# Altium integrated library 3D_MIG_Controller.Library.IntLib: 528 symbols (part 1 of 6)
Pins are listed as number, name and electrical type; pins without a type are passive.

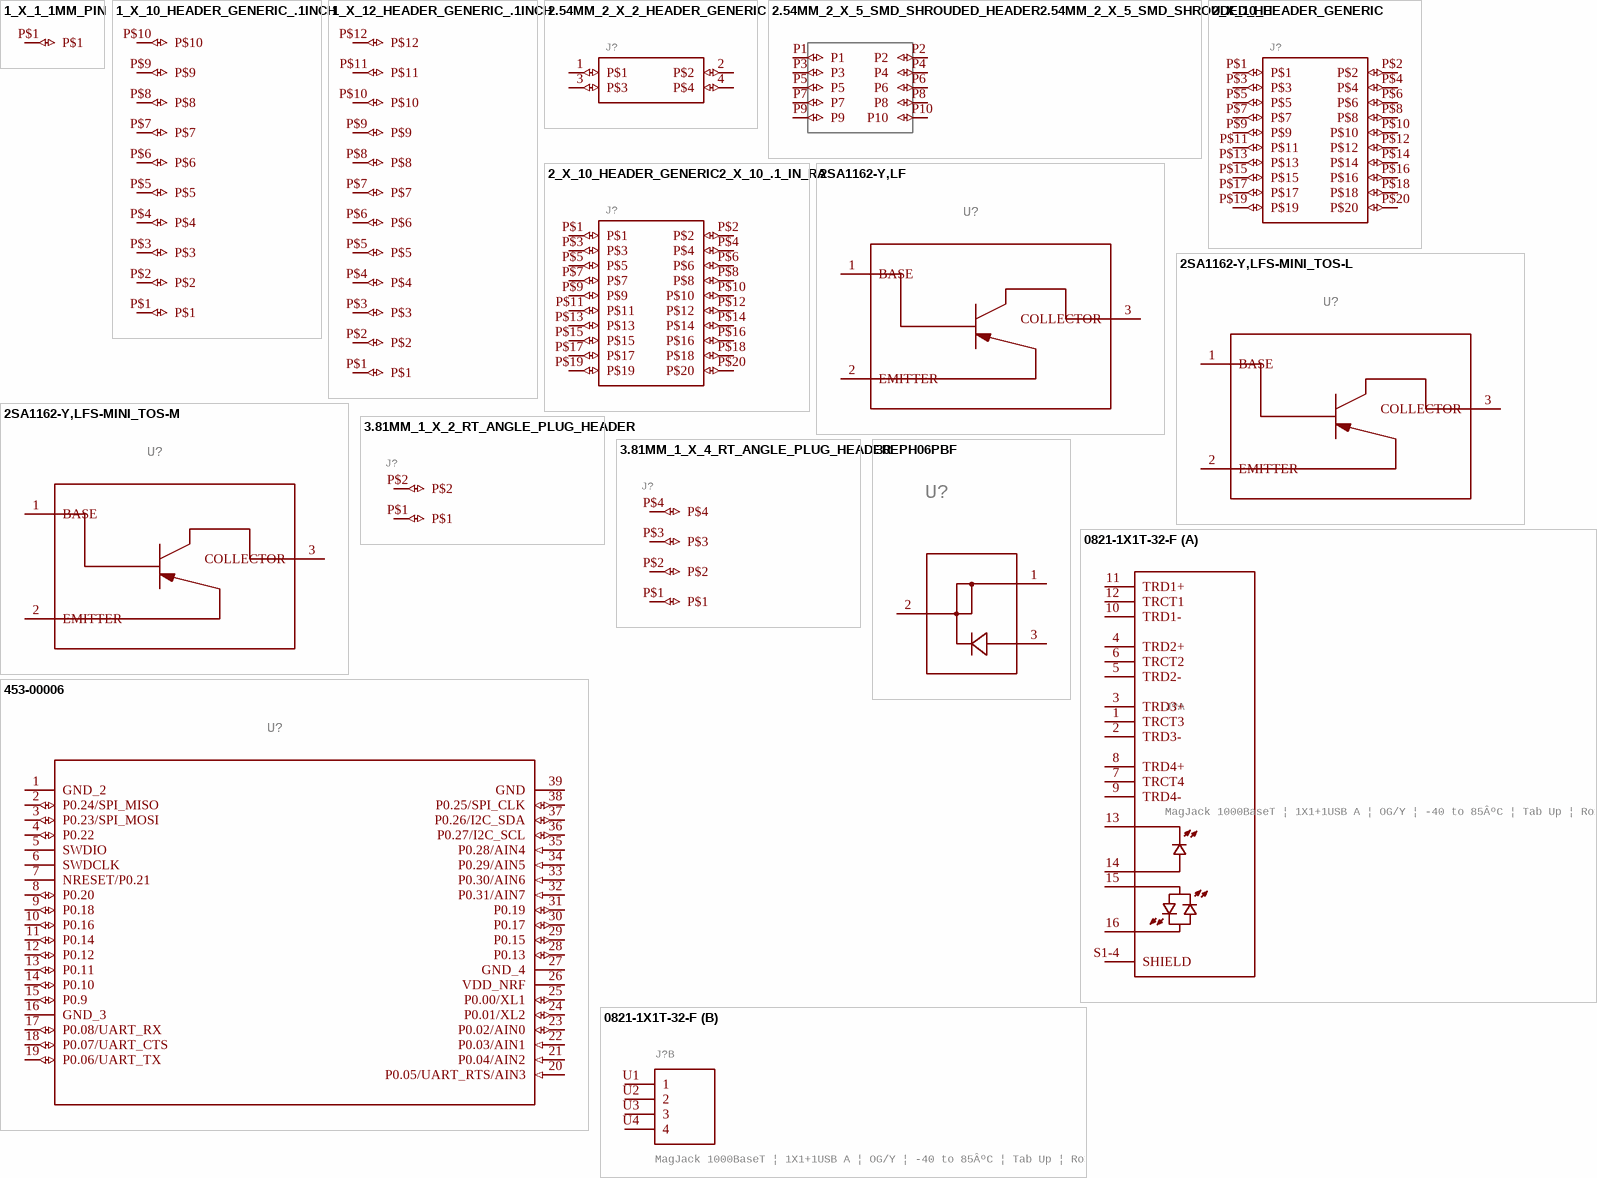
[diagram p0: symbols 1_X_1_1MM_PIN to 0821-1X1T-32-F]

## 1_X_1_1MM_PIN
designator P?
GateName_1: G$1; SymbolName_1: 1_X_1_1MM_PIN; LibraryName: 3D_MIG_Controller; DeviceSetName: 1_X_1_1MM_PIN; Package: 1_X_1_1MM_PIN
footprint 1_X_1_1MM_PIN
pins: P$1 (io)

## 1_X_10_HEADER_GENERIC_.1INCH
designator ?
GateName_1: G$1; SymbolName_1: 1_X_10_HEADER_GENERIC_.1INCH; LibraryName: 3D_MIG_Controller; DeviceSetName: 1_X_10_HEADER_GENERIC_.1INCH; Package: HEADER_1_X_10_.1_INCH
footprint HEADER_1_X_10_.1_INCH
pins: P$1 (io), P$2 (io), P$3 (io), P$4 (io), P$5 (io), P$6 (io), P$7 (io), P$8 (io), P$9 (io), P$10 (io)

## 1_X_12_HEADER_GENERIC_.1INCH
designator ?
GateName_1: G$1; SymbolName_1: 1_X_12_HEADER_GENERIC_.1INCH; LibraryName: 3D_MIG_Controller; DeviceSetName: 1_X_12_HEADER_GENERIC_.1INCH; Package: HEADER_1_X_12_.1_INCH
footprint HEADER_1_X_12_.1_INCH
pins: P$1 (io), P$2 (io), P$3 (io), P$4 (io), P$5 (io), P$6 (io), P$7 (io), P$8 (io), P$9 (io), P$10 (io), P$11 (io), P$12 (io)

## 2.54MM_2_X_2_HEADER_GENERIC
designator J?
GateName_1: G$1; SymbolName_1: 2_X_2_HEADER_GENERIC; DeviceSetName: 2.54MM_2_X_2_HEADER_GENERIC; LibraryName: 3D_MIG_Controller; Package: 2X2
footprint 2X2
pins: 1 P$1 (io), 2 P$2 (io), 3 P$3 (io), 4 P$4 (io)

## 2.54MM_2_X_5_SMD_SHROUDED_HEADER2.54MM_2_X_5_SMD_SHROUDED_HEADER
designator ?
GateName_1: G$1; SymbolName_1: 2.54MM_2_X_5_SMD_SHROUDED_HEADER; DeviceName: 2.54MM_2_X_5_SMD_SHROUDED_HEADER; LibraryName: 3D_MIG_Controller; DeviceSetName: 2.54MM_2_X_5_SMD_SHROUDED_HEADER; Package: 2.54MM_2_X_5_SMD_SHROUDED_HEADER
footprint 2.54MM_2_X_5_SMD_SHROUDED_HEADER
pins: P1 (io), P2 (io), P3 (io), P4 (io), P5 (io), P6 (io), P7 (io), P8 (io), P9 (io), P10 (io)

## 2_X_10_HEADER_GENERIC
designator J?, comment CONN HEADER R/A 20POS 2.54MM, Straight, Right Angle  (value not drawn)
PARTNO: 67996-420HLF; GateName_1: G$1; SymbolName_1: 2_X_10_HEADER_GENERIC; LibraryName: 3D_MIG_Controller; DeviceSetName: 2_X_10_HEADER_GENERIC; Package: 2_X_10_.1_INCH
footprint 2_X_10_.1_INCH
pins: P$1 (io), P$2 (io), P$3 (io), P$4 (io), P$5 (io), P$6 (io), P$7 (io), P$8 (io), P$9 (io), P$10 (io), P$11 (io), P$12 (io), P$13 (io), P$14 (io), P$15 (io), P$16 (io), P$17 (io), P$18 (io), P$19 (io), P$20 (io)

## 2_X_10_HEADER_GENERIC2_X_10_.1_IN_RA
designator J?, comment CONN HEADER R/A 20POS 2.54MM, Straight, Right Angle  (value not drawn)
PARTNO: PH2RA-20-UA; GateName_1: G$1; SymbolName_1: 2_X_10_HEADER_GENERIC; DeviceName: 2_X_10_.1_IN_RA; LibraryName: 3D_MIG_Controller; DeviceSetName: 2_X_10_HEADER_GENERIC; Package: 2_X_10_.1_INCH
footprint 2_X_10_.1_INCH
pins: P$1 (io), P$2 (io), P$3 (io), P$4 (io), P$5 (io), P$6 (io), P$7 (io), P$8 (io), P$9 (io), P$10 (io), P$11 (io), P$12 (io), P$13 (io), P$14 (io), P$15 (io), P$16 (io), P$17 (io), P$18 (io), P$19 (io), P$20 (io)

## 2SA1162-Y,LF
designator U?
GateName_1: A; SymbolName_1: SINGLE_BJT_(PNP); DeviceSetName: 2SA1162-Y,LF; BUILT_BY: EMA_UL_Team; SOURCELIBRARY: Toshiba_2019-12-10; VENDOR: Toshiba; LibraryName: 3D_MIG_Controller; Package: S-MINI_TOS; COPYRIGHT: Copyright (C) 2018 Accelerated Designs. All rights reserved; MANUFACTURER_PART_NUMBER: 2SA1162-Y,LF
footprint S-MINI_TOS
pins: 1 BASE, 2 EMITTER, 3 COLLECTOR

## 2SA1162-Y,LFS-MINI_TOS-L
designator U?
GateName_1: A; SymbolName_1: SINGLE_BJT_(PNP); DeviceName: S-MINI_TOS-L; DeviceSetName: 2SA1162-Y,LF; BUILT_BY: EMA_UL_Team; SOURCELIBRARY: Toshiba_2019-12-10; VENDOR: Toshiba; LibraryName: 3D_MIG_Controller; Package: S-MINI_TOS-L; COPYRIGHT: Copyright (C) 2018 Accelerated Designs. All rights reserved; MANUFACTURER_PART_NUMBER: 2SA1162-Y,LF
footprint S-MINI_TOS-L
pins: 1 BASE, 2 EMITTER, 3 COLLECTOR

## 2SA1162-Y,LFS-MINI_TOS-M
designator U?
GateName_1: A; SymbolName_1: SINGLE_BJT_(PNP); DeviceName: S-MINI_TOS-M; DeviceSetName: 2SA1162-Y,LF; BUILT_BY: EMA_UL_Team; SOURCELIBRARY: Toshiba_2019-12-10; VENDOR: Toshiba; LibraryName: 3D_MIG_Controller; Package: S-MINI_TOS-M; COPYRIGHT: Copyright (C) 2018 Accelerated Designs. All rights reserved; MANUFACTURER_PART_NUMBER: 2SA1162-Y,LF
footprint S-MINI_TOS-M
pins: 1 BASE, 2 EMITTER, 3 COLLECTOR

## 3.81MM_1_X_2_RT_ANGLE_PLUG_HEADER
designator J?, comment TERM BLOCK HDR 2POS 90DEG 3.81MM  (value not drawn)
PARTNO: 691322310002; GateName_1: A; SymbolName_1: 1X2_HEADER; DeviceSetName: 3.81MM_1_X_2_RT_ANGLE_PLUG_HEADER; LibraryName: 3D_MIG_Controller; Package: 2_3.81MM_PITCH
footprint 2_3.81MM_PITCH
pins: P$1 (io), P$2 (io)

## 3.81MM_1_X_4_RT_ANGLE_PLUG_HEADER
designator J?, comment 4 Position Terminal Block Header, Male Pins, Shrouded (4 Side) 0.150" (3.81mm) 90Â°, Right Angle - Through Hole  (value not drawn)
PARTNO: 691322310004; GateName_1: G$1; SymbolName_1: 1X4_HEADER; DeviceSetName: 3.81MM_1_X_4_RT_ANGLE_PLUG_HEADER; LibraryName: 3D_MIG_Controller; Package: 1X4_3.81MM_PITCH
footprint 1X4_3.81MM_PITCH
pins: P$1 (io), P$2 (io), P$3 (io), P$4 (io)

## 30EPH06PBF
designator U?
GateName_1: A; SymbolName_1: DIODE_TO220AC; DeviceSetName: 30EPH06PBF; BUILT_BY: EMA_UL_Team; SOURCELIBRARY: Vishay_2020-02-10; VENDOR: Vishay; LibraryName: 3D_MIG_Controller; Package: TO-247AC_MOD_VIS; MANUFACTURER_PART_NUMBER: 30EPH06PBF
footprint TO-247AC_MOD_VIS
pins: 1, 2, 3

## 453-00006
designator U?
GateName_1: A; SymbolName_1: 453-00006; BUILT_BY: EMA_Cory; SOURCELIBRARY: Laird_2019-12-03; VENDOR: Laird; LibraryName: 3D_MIG_Controller; DeviceSetName: 453-00006; Package: 453-00006_LRD; COPYRIGHT: Copyright (C) 2018 Accelerated Designs. All rights reserved; MANUFACTURER_PART_NUMBER: 453-00006
footprint 453-00006_LRD
pins: 1 GND_2, 2 P0.24/SPI_MISO (io), 3 P0.23/SPI_MOSI (io), 4 P0.22 (io), 5 SWDIO, 6 SWDCLK, 7 NRESET/P0.21, 8 P0.20 (io), 9 P0.18 (io), 10 P0.16 (io), 11 P0.14 (io), 12 P0.12 (io), 13 P0.11 (io), 14 P0.10 (io), 15 P0.9 (io), 16 GND_3, 17 P0.08/UART_RX (io), 18 P0.07/UART_CTS (io), 19 P0.06/UART_TX (io), 20 P0.05/UART_RTS/AIN3 (in), 21 P0.04/AIN2 (in), 22 P0.03/AIN1 (in), 23 P0.02/AIN0 (io), 24 P0.01/XL2 (io), 25 P0.00/XL1 (io), 26 VDD_NRF (power), 27 GND_4, 28 P0.13 (io), 29 P0.15 (io), 30 P0.17 (io), 31 P0.19 (io), 32 P0.31/AIN7 (in), 33 P0.30/AIN6 (in), 34 P0.29/AIN5 (in), 35 P0.28/AIN4 (in), 36 P0.27/I2C_SCL (io), 37 P0.26/I2C_SDA (io), 38 P0.25/SPI_CLK (io), 39 GND

## 0821-1X1T-32-F
designator J?, comment MagJack 1000BaseT ¦ 1X1+1USB A ¦ OG/Y ¦ -40 to 85ÂºC ¦ Tab Up ¦ RoHS
GateName_1: G$1; SymbolName_1: 0821-1X1T-32-F_PORT1; GateName_2: G$2; SymbolName_2: 0821-1X1T-32-F_PORT2; DeviceSetName: 0821-1X1T-32-F; DESCRIPTION: 1 Port RJ45 with USB A Magjack Connector Through Hole 10/100/1000 Base-T, AutoMDIX; MF: Bel Fuse Inc.; LibraryName: 3D_MIG_Controller; Package: BEL_0821-1X1T-32-F; DIGI-KEY_PART_NUMBER: 507-2444-ND; MP: 0821-1X1T-32-F; PACKAGE: None; PURCHASE-URL: https://pricing.snapeda.com/search/part/0821-1X1T-32-F/?ref=eda
footprint BEL_0821-1X1T-32-F
part A pins: 1 TRCT3, 2 TRD3-, 3 TRD3+, 4 TRD2+, 5 TRD2-, 6 TRCT2, 7 TRCT4, 8 TRD4+, 9 TRD4-, 10 TRD1-, 11 TRD1+, 12 TRCT1, 13, 14, 15, 16, S1-4 SHIELD
part B pins: U1 1, U2 2, U3 3, U4 4

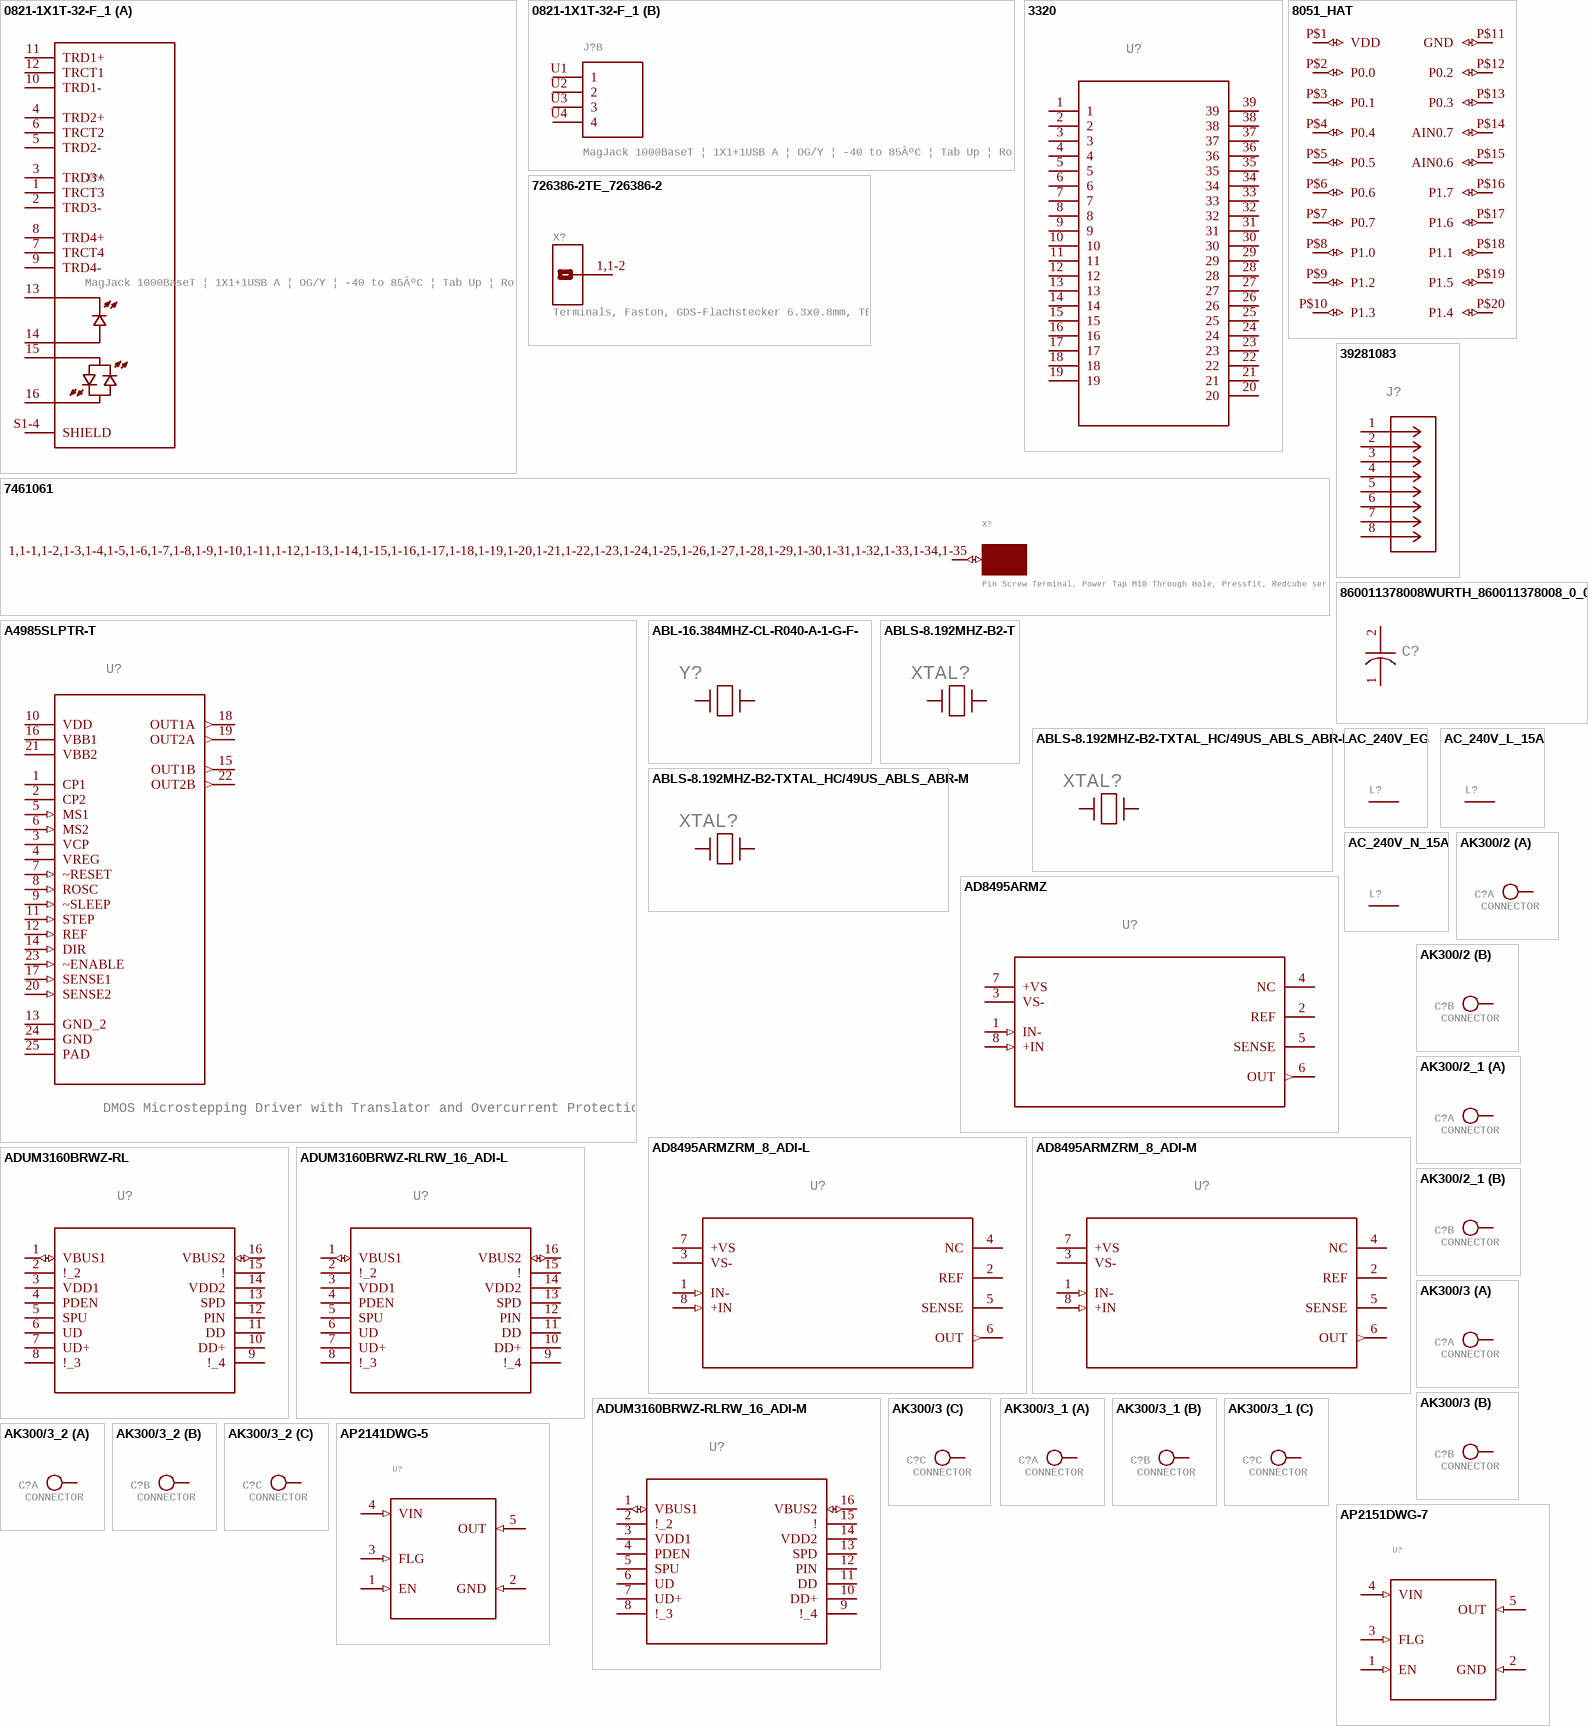
[diagram p1: symbols 0821-1X1T-32-F_1 to AP2151DWG-7]

## 0821-1X1T-32-F_1
designator J?, comment MagJack 1000BaseT ¦ 1X1+1USB A ¦ OG/Y ¦ -40 to 85ÂºC ¦ Tab Up ¦ RoHS
GateName_1: G$1; SymbolName_1: 0821-1X1T-32-F_PORT1; GateName_2: G$2; SymbolName_2: 0821-1X1T-32-F_PORT2; DeviceSetName: 0821-1X1T-32-F; DESCRIPTION: 1 Port RJ45 with USB A Magjack Connector Through Hole 10/100/1000 Base-T, AutoMDIX; MF: Bel Fuse Inc.; LibraryName: 3D_MIG_Controller; Package: BEL_0821-1X1T-32-F; DIGI-KEY_PART_NUMBER: 507-2444-ND; MP: 0821-1X1T-32-F; PACKAGE: None; PURCHASE-URL: https://pricing.snapeda.com/search/part/0821-1X1T-32-F/?ref=eda
footprint BEL_0821-1X1T-32-F
part A pins: 1 TRCT3, 2 TRD3-, 3 TRD3+, 4 TRD2+, 5 TRD2-, 6 TRCT2, 7 TRCT4, 8 TRD4+, 9 TRD4-, 10 TRD1-, 11 TRD1+, 12 TRCT1, 13, 14, 15, 16, S1-4 SHIELD
part B pins: U1 1, U2 2, U3 3, U4 4

## 3320
designator U?
GateName_1: A; SymbolName_1: IC_3320; DeviceSetName: 3320; BUILT_BY: EMA_Colton; SOURCELIBRARY: Adafruit_2019-12-18; VENDOR: Adafruit Industries; LibraryName: 3D_MIG_Controller; Package: IC_3320_ADA; COPYRIGHT: Copyright (C) 2018 Accelerated Designs. All rights reserved; MANUFACTURER_PART_NUMBER: 3320
footprint IC_3320_ADA
pins: 1, 2, 3, 4, 5, 6, 7, 8, 9, 10, 11, 12, 13, 14, 15, 16, 17, 18, 19, 20, 21, 22, 23, 24, 25, 26, 27, 28, 29, 30, 31, 32, 33, 34, 35, 36, 37, 38, 39

## 8051_HAT
designator ?
GateName_1: G$1; SymbolName_1: 8051_HAT; LibraryName: 3D_MIG_Controller; DeviceSetName: 8051_HAT; Package: 8051_HAT
footprint 8051_HAT
pins: P$1 VDD (io), P$2 P0.0 (io), P$3 P0.1 (io), P$4 P0.4 (io), P$5 P0.5 (io), P$6 P0.6 (io), P$7 P0.7 (io), P$8 P1.0 (io), P$9 P1.2 (io), P$10 P1.3 (io), P$11 GND (io), P$12 P0.2 (io), P$13 P0.3 (io), P$14 AIN0.7 (io), P$15 AIN0.6 (io), P$16 P1.7 (io), P$17 P1.6 (io), P$18 P1.1 (io), P$19 P1.5 (io), P$20 P1.4 (io)

## 726386-2TE_726386-2
designator X?, comment Terminals, Faston, GDS-Flachstecker 6.3x0.8mm, TE
GateName_1: G$0; SymbolName_1: 726386-2; DeviceName: TE_726386-2; CENTROID_NOT_SPECIFIED: No; CONN_GENDER: Male; CONN_ORIENTATION: Straight; CONTACT_MATERIAL: Tin; DEVICE_CLASS_L1: Connectors; DEVICE_CLASS_L2: Terminal Blocks | Terminals; DEVICE_CLASS_L3: unset; LEAD_FREE: yes; MFG_PACKAGE_IDENT_REV: 0; PREFIX: J; TEMPERATURE_RANGE_HIGH: +110°C; TEMPERATURE_RANGE_LOW: -30°C; VERIFICATION_VERSION: 0.0.0.1; LibraryName: 3D_MIG_Controller; DeviceSetName: 726386-2; Package: TE_726386-2; DATASHEET: http://www.te.com/commerce/DocumentDelivery/DDEController?Action=showdoc&DocId=Customer+Drawing%7F726386%7FG%7Fpdf%7FEnglish%7FENG_CD_726386_G.pdf%7F726386-2; DIGIKEY_DESCRIPTION: CONN QC TAB 0.250 SOLDER; DIGIKEY_PART_NUMBER: A114371-ND; HEIGHT: 10mm; MF: TE; MFG_PACKAGE_IDENT: 726386-2; MFG_PACKAGE_IDENT_DATE: 0; MOUSER_DESCRIPTION: Terminals GDS-FLACHSTECK 6.3; MOUSER_PART_NUMBER: 571-726386-2; MPN: 726386-2; PACKAGE: PTH_TERMINAL_8MM0_0MM8; ROHS: yes
footprint TE_726386-2
pins: 1,1-2 1

## 7461061
designator X?, comment Pin Screw Terminal, Power Tap M10 Through Hole, Pressfit, Redcube series
GateName_1: G$1; SymbolName_1: X01_FASTON; DeviceSetName: 7461061; LibraryName: 3D_MIG_Controller; Package: X01_M10_7461061
footprint X01_M10_7461061
pins: 1,1-1,1-2,1-3,1-4,1-5,1-6,1-7,1-8,1-9,1-10,1-11,1-12,1-13,1-14,1-15,1-16,1-17,1-18,1-19,1-20,1-21,1-22,1-23,1-24,1-25,1-26,1-27,1-28,1-29,1-30,1-31,1-32,1-33,1-34,1-35 P$1 (io)

## 39281083
designator J?
MFR_NAME: Molex Connector Corporation; GateName_1: A; SymbolName_1: CON_39281083; DeviceSetName: 39281083; LibraryName: 3D_MIG_Controller; Package: CON_39281083; COPYRIGHT: Copyright (C) 2022 Ultra Librarian. All rights reserved.; MANUFACTURER_PART_NUMBER: 39281083
footprint CON_39281083
pins: 1, 2, 3, 4, 5, 6, 7, 8

## 860011378008WURTH_860011378008_0_0
designator C?, comment Aluminium Electrolytic Capacitor, WCAP-ATG8 Series, 33 F, 20%, 400 V, 13 mm, Radial Leaded  (value not drawn)
GateName_1: G$0; SymbolName_1: WURTH_860011378008_0_0; DeviceSetName: 860011378008; CAPACITANCE: 33.0µF; CENTROID_NOT_SPECIFIED: No; DEVICE_CLASS_L1: Passive Components; DEVICE_CLASS_L2: Capacitors; DEVICE_CLASS_L3: Aluminum Electrolytic Capacitors; DISSIPATION_FACTOR: 15%; LEAD_FREE: yes; LEAKAGE_CURRENT: 396uA; LIFE: 2000Hours; MF: Wurth; MFG_PACKAGE_IDENT_REV: 0; PREFIX: C; RIPPLE_CURRENT: 230mA; TEMPERATURE_RANGE_HIGH: +85°C; TEMPERATURE_RANGE_LOW: -25°C; VERIFICATION_VERSION: 0.0.0.1; VOLTAGE_RATING: 400V; DeviceName: WURTH_860011378008_0_0; LibraryName: 3D_MIG_Controller; Package: WURTH_860011378008_0; DATASHEET: http://katalog.we-online.com/pbs/datasheet/860011378008.pdf; DIGIKEY_DESCRIPTION: CAP 33 UF 20% 400 V; DIGIKEY_PART_NUMBER: 732-8692-1-ND; HEIGHT: 26.5mm; MATERIAL: Aluminium; MFG_PACKAGE_IDENT: 860011378008; MFG_PACKAGE_IDENT_DATE: 0; MOUSER_PART_NUMBER: 710-860011378008; MPN: 860011378008; PACKAGE: RADIAL; ROHS: yes; TOLERANCE: 20%
footprint WURTH_860011378008_0
pins: 1 CATHODE, 2 ANODE

## A4985SLPTR-T
designator U?, comment DMOS Microstepping Driver with Translator and Overcurrent Protection
GateName_1: A; SymbolName_1: A4985SLPTR-T; LibraryName: 3D_MIG_Controller; DeviceSetName: A4985SLPTR-T; Package: SOP65P640X120-25N; MPN: A4985SLPTR-T; OC_FARNELL: -; OC_NEWARK: 67R9674; PACKAGE: TSSOP-24; SUPPLIER: Allegro
footprint SOP65P640X120-25N
pins: 1 CP1, 2 CP2, 3 VCP, 4 VREG, 5 MS1 (in), 6 MS2 (in), 7 ~RESET (in), 8 ROSC (in), 9 ~SLEEP (in), 10 VDD (power), 11 STEP (in), 12 REF (in), 13 GND_2, 14 DIR (in), 15 OUT1B (out), 16 VBB1 (power), 17 SENSE1 (in), 18 OUT1A (out), 19 OUT2A (out), 20 SENSE2 (in), 21 VBB2 (power), 22 OUT2B (out), 23 ~ENABLE (in), 24 GND, 25 PAD

## ABL-16.384MHZ-CL-R040-A-1-G-F-
designator Y?
MANUFACTURER_PART_NUMBER: ABL-16.384MHZ-CL-R040-A-1-G-F-I-P; GateName_1: A; SymbolName_1: CRYSTALH; DeviceSetName: ABL-16.384MHZ-CL-R040-A-1-G-F-; BUILT_BY: EMA_UL_Team; SOURCELIBRARY: Abracon_2012_11_21_16; VENDOR: Abracon; LibraryName: 3D_MIG_Controller; Package: ABL_SERIES_ABR
footprint ABL_SERIES_ABR
pins: 1, 2

## ABLS-8.192MHZ-B2-T
designator XTAL?
GateName_1: A; SymbolName_1: CRYSTALH; DeviceSetName: ABLS-8.192MHZ-B2-T; BUILT_BY: EMA_Cory; SOURCELIBRARY: Abracon_2020-04-08; VENDOR: Abracon; LibraryName: 3D_MIG_Controller; Package: XTAL_HC/49US_ABLS_ABR; COPYRIGHT: Copyright (C) 2018 Accelerated Designs. All rights reserved; DATASHEET: https://abracon.com/Resonators/abls.pdf; MANUFACTURER_PART_NUMBER: ABLS-8.192MHZ-B2-T
footprint XTAL_HC/49US_ABLS_ABR
pins: 1, 2

## ABLS-8.192MHZ-B2-TXTAL_HC/49US_ABLS_ABR-L
designator XTAL?
GateName_1: A; SymbolName_1: CRYSTALH; DeviceName: XTAL_HC/49US_ABLS_ABR-L; DeviceSetName: ABLS-8.192MHZ-B2-T; BUILT_BY: EMA_Cory; SOURCELIBRARY: Abracon_2020-04-08; VENDOR: Abracon; LibraryName: 3D_MIG_Controller; Package: XTAL_HC/49US_ABLS_ABR-L; COPYRIGHT: Copyright (C) 2018 Accelerated Designs. All rights reserved; DATASHEET: https://abracon.com/Resonators/abls.pdf; MANUFACTURER_PART_NUMBER: ABLS-8.192MHZ-B2-T
footprint XTAL_HC/49US_ABLS_ABR-L
pins: 1, 2

## ABLS-8.192MHZ-B2-TXTAL_HC/49US_ABLS_ABR-M
designator XTAL?
GateName_1: A; SymbolName_1: CRYSTALH; DeviceName: XTAL_HC/49US_ABLS_ABR-M; DeviceSetName: ABLS-8.192MHZ-B2-T; BUILT_BY: EMA_Cory; SOURCELIBRARY: Abracon_2020-04-08; VENDOR: Abracon; LibraryName: 3D_MIG_Controller; Package: XTAL_HC/49US_ABLS_ABR-M; COPYRIGHT: Copyright (C) 2018 Accelerated Designs. All rights reserved; DATASHEET: https://abracon.com/Resonators/abls.pdf; MANUFACTURER_PART_NUMBER: ABLS-8.192MHZ-B2-T
footprint XTAL_HC/49US_ABLS_ABR-M
pins: 1, 2

## AC_240V_EG
designator L?
GateName_1: G$1; SymbolName_1: AC_240V_L1_15A; DeviceSetName: AC_240V_EG; LibraryName: 3D_MIG_Controller; Package: AC_240V_L1_15A
footprint AC_240V_L1_15A
pins: P$1

## AC_240V_L_15A
designator L?
GateName_1: G$1; SymbolName_1: AC_240V_L1_15A; DeviceSetName: AC_240V_L_15A; LibraryName: 3D_MIG_Controller; Package: AC_240V_L1_15A
footprint AC_240V_L1_15A
pins: P$1

## AC_240V_N_15A
designator L?
GateName_1: G$1; SymbolName_1: AC_240V_L1_15A; DeviceSetName: AC_240V_N_15A; LibraryName: 3D_MIG_Controller; Package: AC_240V_L1_15A
footprint AC_240V_L1_15A
pins: P$1

## AD8495ARMZ
designator U?
GateName_1: A; SymbolName_1: AD8495ARMZ; BUILT_BY: EMA_UL_Team; SOURCELIBRARY: Analog_2015-12-15; VENDOR: Analog Devices Inc; LibraryName: 3D_MIG_Controller; DeviceSetName: AD8495ARMZ; Package: RM_8_ADI; MANUFACTURER_PART_NUMBER: AD8495ARMZ
footprint RM_8_ADI
pins: 1 IN- (in), 2 REF, 3 VS- (power), 4 NC, 5 SENSE, 6 OUT (out), 7 +VS (power), 8 +IN (in)

## AD8495ARMZRM_8_ADI-L
designator U?
GateName_1: A; SymbolName_1: AD8495ARMZ; DeviceName: RM_8_ADI-L; BUILT_BY: EMA_UL_Team; SOURCELIBRARY: Analog_2015-12-15; VENDOR: Analog Devices Inc; LibraryName: 3D_MIG_Controller; DeviceSetName: AD8495ARMZ; Package: RM_8_ADI-L; MANUFACTURER_PART_NUMBER: AD8495ARMZ
footprint RM_8_ADI-L
pins: 1 IN- (in), 2 REF, 3 VS- (power), 4 NC, 5 SENSE, 6 OUT (out), 7 +VS (power), 8 +IN (in)

## AD8495ARMZRM_8_ADI-M
designator U?
GateName_1: A; SymbolName_1: AD8495ARMZ; DeviceName: RM_8_ADI-M; BUILT_BY: EMA_UL_Team; SOURCELIBRARY: Analog_2015-12-15; VENDOR: Analog Devices Inc; LibraryName: 3D_MIG_Controller; DeviceSetName: AD8495ARMZ; Package: RM_8_ADI-M; MANUFACTURER_PART_NUMBER: AD8495ARMZ
footprint RM_8_ADI-M
pins: 1 IN- (in), 2 REF, 3 VS- (power), 4 NC, 5 SENSE, 6 OUT (out), 7 +VS (power), 8 +IN (in)

## ADUM3160BRWZ-RL
designator U?
GateName_1: A; SymbolName_1: ADUM3160BRWZ-RL; BUILT_BY: EMA_UL_Team; SOURCELIBRARY: Analog_2019-03-08; VENDOR: Analog Devices Inc; LibraryName: 3D_MIG_Controller; DeviceSetName: ADUM3160BRWZ-RL; Package: RW_16_ADI; COPYRIGHT: Copyright (C) 2018 Accelerated Designs. All rights reserved; MANUFACTURER_PART_NUMBER: ADUM3160BRWZ-RL
footprint RW_16_ADI
pins: 1 VBUS1 (io), 2 !_2, 3 VDD1 (power), 4 PDEN, 5 SPU, 6 UD, 7 UD+, 8 !_3, 9 !_4, 10 DD+, 11 DD, 12 PIN, 13 SPD, 14 VDD2 (power), 15 !, 16 VBUS2 (io)

## ADUM3160BRWZ-RLRW_16_ADI-L
designator U?
GateName_1: A; SymbolName_1: ADUM3160BRWZ-RL; DeviceName: RW_16_ADI-L; BUILT_BY: EMA_UL_Team; SOURCELIBRARY: Analog_2019-03-08; VENDOR: Analog Devices Inc; LibraryName: 3D_MIG_Controller; DeviceSetName: ADUM3160BRWZ-RL; Package: RW_16_ADI-L; COPYRIGHT: Copyright (C) 2018 Accelerated Designs. All rights reserved; MANUFACTURER_PART_NUMBER: ADUM3160BRWZ-RL
footprint RW_16_ADI-L
pins: 1 VBUS1 (io), 2 !_2, 3 VDD1 (power), 4 PDEN, 5 SPU, 6 UD, 7 UD+, 8 !_3, 9 !_4, 10 DD+, 11 DD, 12 PIN, 13 SPD, 14 VDD2 (power), 15 !, 16 VBUS2 (io)

## ADUM3160BRWZ-RLRW_16_ADI-M
designator U?
GateName_1: A; SymbolName_1: ADUM3160BRWZ-RL; DeviceName: RW_16_ADI-M; BUILT_BY: EMA_UL_Team; SOURCELIBRARY: Analog_2019-03-08; VENDOR: Analog Devices Inc; LibraryName: 3D_MIG_Controller; DeviceSetName: ADUM3160BRWZ-RL; Package: RW_16_ADI-M; COPYRIGHT: Copyright (C) 2018 Accelerated Designs. All rights reserved; MANUFACTURER_PART_NUMBER: ADUM3160BRWZ-RL
footprint RW_16_ADI-M
pins: 1 VBUS1 (io), 2 !_2, 3 VDD1 (power), 4 PDEN, 5 SPU, 6 UD, 7 UD+, 8 !_3, 9 !_4, 10 DD+, 11 DD, 12 PIN, 13 SPD, 14 VDD2 (power), 15 !, 16 VBUS2 (io)

## AK300/2
designator C?, comment CONNECTOR
GateName_1: -1; SymbolName_1: KL-1; GateName_2: -2; SymbolName_2: KLV-1; DeviceSetName: AK300/2; LibraryName: 3D_MIG_Controller; Package: AK300/2; OC_FARNELL: unknown; OC_NEWARK: unknown
footprint AK300/2
part A pins: 1 KL
part B pins: 2 KL

## AK300/2_1
designator C?, comment CONNECTOR
GateName_1: -1; SymbolName_1: KL-1; GateName_2: -2; SymbolName_2: KLV-1; DeviceSetName: AK300/2; LibraryName: 3D_MIG_Controller; Package: AK300/2; OC_FARNELL: unknown; OC_NEWARK: unknown
footprint AK300/2
part A pins: 1 KL
part B pins: 2 KL

## AK300/3
designator C?, comment CONNECTOR
GateName_1: -1; SymbolName_1: KL; GateName_2: -2; GateName_3: -3; SymbolName_3: KLV; DeviceSetName: AK300/3; SymbolName_2: KL; LibraryName: 3D_MIG_Controller; Package: AK300/3; OC_FARNELL: unknown; OC_NEWARK: unknown
footprint AK300/3
part A pins: 1 KL
part B pins: 2 KL
part C pins: 3 KL

## AK300/3_1
designator C?, comment CONNECTOR
GateName_1: -1; SymbolName_1: KL; GateName_2: -2; GateName_3: -3; SymbolName_3: KLV; DeviceSetName: AK300/3; SymbolName_2: KL; LibraryName: 3D_MIG_Controller; Package: AK300/3; OC_FARNELL: unknown; OC_NEWARK: unknown
footprint AK300/3
part A pins: 1 KL
part B pins: 2 KL
part C pins: 3 KL

## AK300/3_2
designator C?, comment CONNECTOR
GateName_1: -1; SymbolName_1: KL; GateName_2: -2; GateName_3: -3; SymbolName_3: KLV; DeviceSetName: AK300/3; SymbolName_2: KL; LibraryName: 3D_MIG_Controller; Package: AK300/3; OC_FARNELL: unknown; OC_NEWARK: unknown
footprint AK300/3
part A pins: 1 KL
part B pins: 2 KL
part C pins: 3 KL

## AP2141DWG-5
designator U?, comment Power Switch/Driver 1:1 P-Channel 500mA SOT-25  (value not drawn)
PARTNO: AP2151WG-7; GateName_1: A; SymbolName_1: AP2141DWG-7; DeviceSetName: AP2141DWG-5; LibraryName: 3D_MIG_Controller; Package: SOT-23-5
footprint SOT-23-5
pins: 1 EN (in), 2 GND (in), 3 FLG (in), 4 VIN (in), 5 OUT (in)

## AP2151DWG-7
designator U?, comment Power Switch/Driver 1:1 P-Channel 500mA SOT-25  (value not drawn)
PARTNO: AP2151WG-7; GateName_1: A; SymbolName_1: AP2141DWG-7; DeviceSetName: AP2151DWG-7; LibraryName: 3D_MIG_Controller; Package: SOT-23-5
footprint SOT-23-5
pins: 1 EN (in), 2 GND (in), 3 FLG (in), 4 VIN (in), 5 OUT (in)

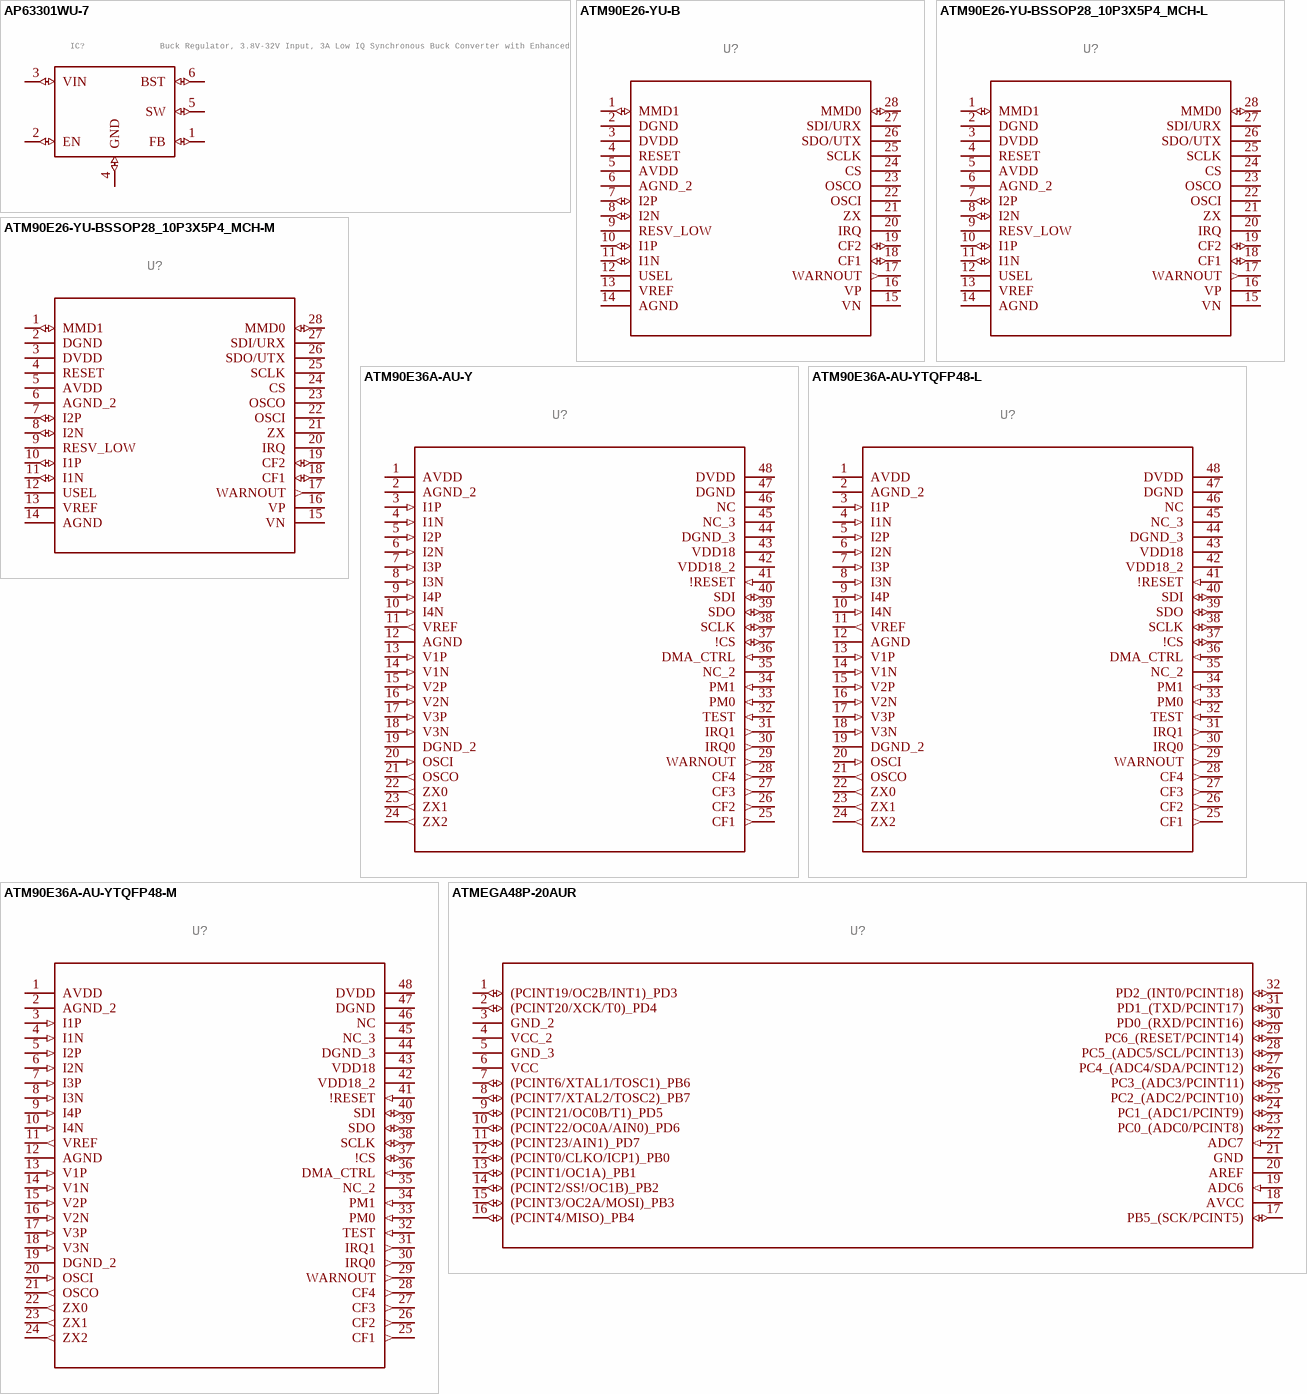
[diagram p2: symbols AP63301WU-7 to ATMEGA48P-20AUR]

## AP63301WU-7
designator IC?, comment Buck Regulator, 3.8V-32V Input, 3A Low IQ Synchronous Buck Converter with Enhanced EMI
GateName_1: G$1; SymbolName_1: AP6330X; DeviceSetName: AP63301WU-7; LibraryName: 3D_MIG_Controller; Package: SOT23-6
footprint SOT23-6
pins: 1 FB (io), 2 EN (io), 3 VIN (io), 4 GND (io), 5 SW (io), 6 BST (io)

## ATM90E26-YU-B
designator U?
GateName_1: A; SymbolName_1: ATM90E26-YU-B; BUILT_BY: EMA_Molly; SOURCELIBRARY: Microchip_2019-08-23_24; VENDOR: Microchip; LibraryName: 3D_MIG_Controller; DeviceSetName: ATM90E26-YU-B; Package: SSOP28_10P3X5P4_MCH; COPYRIGHT: Copyright (C) 2018 Accelerated Designs. All rights reserved; MANUFACTURER_PART_NUMBER: ATM90E26-YU-B
footprint SSOP28_10P3X5P4_MCH
pins: 1 MMD1 (io), 2 DGND, 3 DVDD (power), 4 RESET, 5 AVDD (power), 6 AGND_2, 7 I2P (io), 8 I2N (io), 9 RESV_LOW, 10 I1P (io), 11 I1N (io), 12 USEL, 13 VREF (power), 14 AGND, 15 VN, 16 VP, 17 WARNOUT (out), 18 CF1 (io), 19 CF2 (io), 20 IRQ, 21 ZX, 22 OSCI, 23 OSCO, 24 CS, 25 SCLK, 26 SDO/UTX, 27 SDI/URX, 28 MMD0 (io)

## ATM90E26-YU-BSSOP28_10P3X5P4_MCH-L
designator U?
GateName_1: A; SymbolName_1: ATM90E26-YU-B; DeviceName: SSOP28_10P3X5P4_MCH-L; BUILT_BY: EMA_Molly; SOURCELIBRARY: Microchip_2019-08-23_24; VENDOR: Microchip; LibraryName: 3D_MIG_Controller; DeviceSetName: ATM90E26-YU-B; Package: SSOP28_10P3X5P4_MCH-L; COPYRIGHT: Copyright (C) 2018 Accelerated Designs. All rights reserved; MANUFACTURER_PART_NUMBER: ATM90E26-YU-B
footprint SSOP28_10P3X5P4_MCH-L
pins: 1 MMD1 (io), 2 DGND, 3 DVDD (power), 4 RESET, 5 AVDD (power), 6 AGND_2, 7 I2P (io), 8 I2N (io), 9 RESV_LOW, 10 I1P (io), 11 I1N (io), 12 USEL, 13 VREF (power), 14 AGND, 15 VN, 16 VP, 17 WARNOUT (out), 18 CF1 (io), 19 CF2 (io), 20 IRQ, 21 ZX, 22 OSCI, 23 OSCO, 24 CS, 25 SCLK, 26 SDO/UTX, 27 SDI/URX, 28 MMD0 (io)

## ATM90E26-YU-BSSOP28_10P3X5P4_MCH-M
designator U?
GateName_1: A; SymbolName_1: ATM90E26-YU-B; DeviceName: SSOP28_10P3X5P4_MCH-M; BUILT_BY: EMA_Molly; SOURCELIBRARY: Microchip_2019-08-23_24; VENDOR: Microchip; LibraryName: 3D_MIG_Controller; DeviceSetName: ATM90E26-YU-B; Package: SSOP28_10P3X5P4_MCH-M; COPYRIGHT: Copyright (C) 2018 Accelerated Designs. All rights reserved; MANUFACTURER_PART_NUMBER: ATM90E26-YU-B
footprint SSOP28_10P3X5P4_MCH-M
pins: 1 MMD1 (io), 2 DGND, 3 DVDD (power), 4 RESET, 5 AVDD (power), 6 AGND_2, 7 I2P (io), 8 I2N (io), 9 RESV_LOW, 10 I1P (io), 11 I1N (io), 12 USEL, 13 VREF (power), 14 AGND, 15 VN, 16 VP, 17 WARNOUT (out), 18 CF1 (io), 19 CF2 (io), 20 IRQ, 21 ZX, 22 OSCI, 23 OSCO, 24 CS, 25 SCLK, 26 SDO/UTX, 27 SDI/URX, 28 MMD0 (io)

## ATM90E36A-AU-Y
designator U?
MANUFACTURER_PART_NUMBER: ATM90E36AAUY; GateName_1: A; SymbolName_1: ATM90E36A-AU-Y; VENDOR: Atmel; LibraryName: 3D_MIG_Controller; DeviceSetName: ATM90E36A-AU-Y; Package: TQFP48
footprint TQFP48
pins: 1 AVDD (power), 2 AGND_2 (power), 3 I1P (in), 4 I1N (in), 5 I2P (in), 6 I2N (in), 7 I3P (in), 8 I3N (in), 9 I4P (in), 10 I4N (in), 11 VREF (out), 12 AGND (power), 13 V1P (in), 14 V1N (in), 15 V2P (in), 16 V2N (in), 17 V3P (in), 18 V3N (in), 19 DGND_2 (power), 20 OSCI (in), 21 OSCO (out), 22 ZX0 (out), 23 ZX1 (out), 24 ZX2 (out), 25 CF1 (out), 26 CF2 (out), 27 CF3 (out), 28 CF4 (out), 29 WARNOUT (out), 30 IRQ0 (out), 31 IRQ1 (out), 32 TEST (in), 33 PM0 (in), 34 PM1 (in), 35 NC_2, 36 DMA_CTRL (in), 37 !CS (io), 38 SCLK (io), 39 SDO (io), 40 SDI (io), 41 !RESET (in), 42 VDD18_2 (power), 43 VDD18 (power), 44 DGND_3 (power), 45 NC_3, 46 NC, 47 DGND (power), 48 DVDD (power)

## ATM90E36A-AU-YTQFP48-L
designator U?
MANUFACTURER_PART_NUMBER: ATM90E36AAUY; GateName_1: A; SymbolName_1: ATM90E36A-AU-Y; DeviceName: TQFP48-L; VENDOR: Atmel; LibraryName: 3D_MIG_Controller; DeviceSetName: ATM90E36A-AU-Y; Package: TQFP48-L
footprint TQFP48-L
pins: 1 AVDD (power), 2 AGND_2 (power), 3 I1P (in), 4 I1N (in), 5 I2P (in), 6 I2N (in), 7 I3P (in), 8 I3N (in), 9 I4P (in), 10 I4N (in), 11 VREF (out), 12 AGND (power), 13 V1P (in), 14 V1N (in), 15 V2P (in), 16 V2N (in), 17 V3P (in), 18 V3N (in), 19 DGND_2 (power), 20 OSCI (in), 21 OSCO (out), 22 ZX0 (out), 23 ZX1 (out), 24 ZX2 (out), 25 CF1 (out), 26 CF2 (out), 27 CF3 (out), 28 CF4 (out), 29 WARNOUT (out), 30 IRQ0 (out), 31 IRQ1 (out), 32 TEST (in), 33 PM0 (in), 34 PM1 (in), 35 NC_2, 36 DMA_CTRL (in), 37 !CS (io), 38 SCLK (io), 39 SDO (io), 40 SDI (io), 41 !RESET (in), 42 VDD18_2 (power), 43 VDD18 (power), 44 DGND_3 (power), 45 NC_3, 46 NC, 47 DGND (power), 48 DVDD (power)

## ATM90E36A-AU-YTQFP48-M
designator U?
MANUFACTURER_PART_NUMBER: ATM90E36AAUY; GateName_1: A; SymbolName_1: ATM90E36A-AU-Y; DeviceName: TQFP48-M; VENDOR: Atmel; LibraryName: 3D_MIG_Controller; DeviceSetName: ATM90E36A-AU-Y; Package: TQFP48-M
footprint TQFP48-M
pins: 1 AVDD (power), 2 AGND_2 (power), 3 I1P (in), 4 I1N (in), 5 I2P (in), 6 I2N (in), 7 I3P (in), 8 I3N (in), 9 I4P (in), 10 I4N (in), 11 VREF (out), 12 AGND (power), 13 V1P (in), 14 V1N (in), 15 V2P (in), 16 V2N (in), 17 V3P (in), 18 V3N (in), 19 DGND_2 (power), 20 OSCI (in), 21 OSCO (out), 22 ZX0 (out), 23 ZX1 (out), 24 ZX2 (out), 25 CF1 (out), 26 CF2 (out), 27 CF3 (out), 28 CF4 (out), 29 WARNOUT (out), 30 IRQ0 (out), 31 IRQ1 (out), 32 TEST (in), 33 PM0 (in), 34 PM1 (in), 35 NC_2, 36 DMA_CTRL (in), 37 !CS (io), 38 SCLK (io), 39 SDO (io), 40 SDI (io), 41 !RESET (in), 42 VDD18_2 (power), 43 VDD18 (power), 44 DGND_3 (power), 45 NC_3, 46 NC, 47 DGND (power), 48 DVDD (power)

## ATMEGA48P-20AUR
designator U?
GateName_1: A; SymbolName_1: ATMEGA48P-20AU; DeviceSetName: ATMEGA48P-20AUR; BUILT_BY: EMA_UL_Team; SOURCELIBRARY: Atmel_2014-06-19; VENDOR: Atmel; LibraryName: 3D_MIG_Controller; Package: 32A_ATM; MANUFACTURER_PART_NUMBER: ATMEGA48P-20AUR
footprint 32A_ATM
pins: 1 (PCINT19/OC2B/INT1)_PD3 (io), 2 (PCINT20/XCK/T0)_PD4 (io), 3 GND_2 (power), 4 VCC_2 (power), 5 GND_3 (power), 6 VCC (power), 7 (PCINT6/XTAL1/TOSC1)_PB6 (io), 8 (PCINT7/XTAL2/TOSC2)_PB7 (io), 9 (PCINT21/OC0B/T1)_PD5 (io), 10 (PCINT22/OC0A/AIN0)_PD6 (io), 11 (PCINT23/AIN1)_PD7 (io), 12 (PCINT0/CLKO/ICP1)_PB0 (io), 13 (PCINT1/OC1A)_PB1 (io), 14 (PCINT2/SS!/OC1B)_PB2 (io), 15 (PCINT3/OC2A/MOSI)_PB3 (io), 16 (PCINT4/MISO)_PB4 (io), 17 PB5_(SCK/PCINT5) (io), 18 AVCC (power), 19 ADC6 (in), 20 AREF, 21 GND (power), 22 ADC7 (in), 23 PC0_(ADC0/PCINT8) (io), 24 PC1_(ADC1/PCINT9) (io), 25 PC2_(ADC2/PCINT10) (io), 26 PC3_(ADC3/PCINT11) (io), 27 PC4_(ADC4/SDA/PCINT12) (io), 28 PC5_(ADC5/SCL/PCINT13) (io), 29 PC6_(RESET/PCINT14) (io), 30 PD0_(RXD/PCINT16) (io), 31 PD1_(TXD/PCINT17) (io), 32 PD2_(INT0/PCINT18) (io)

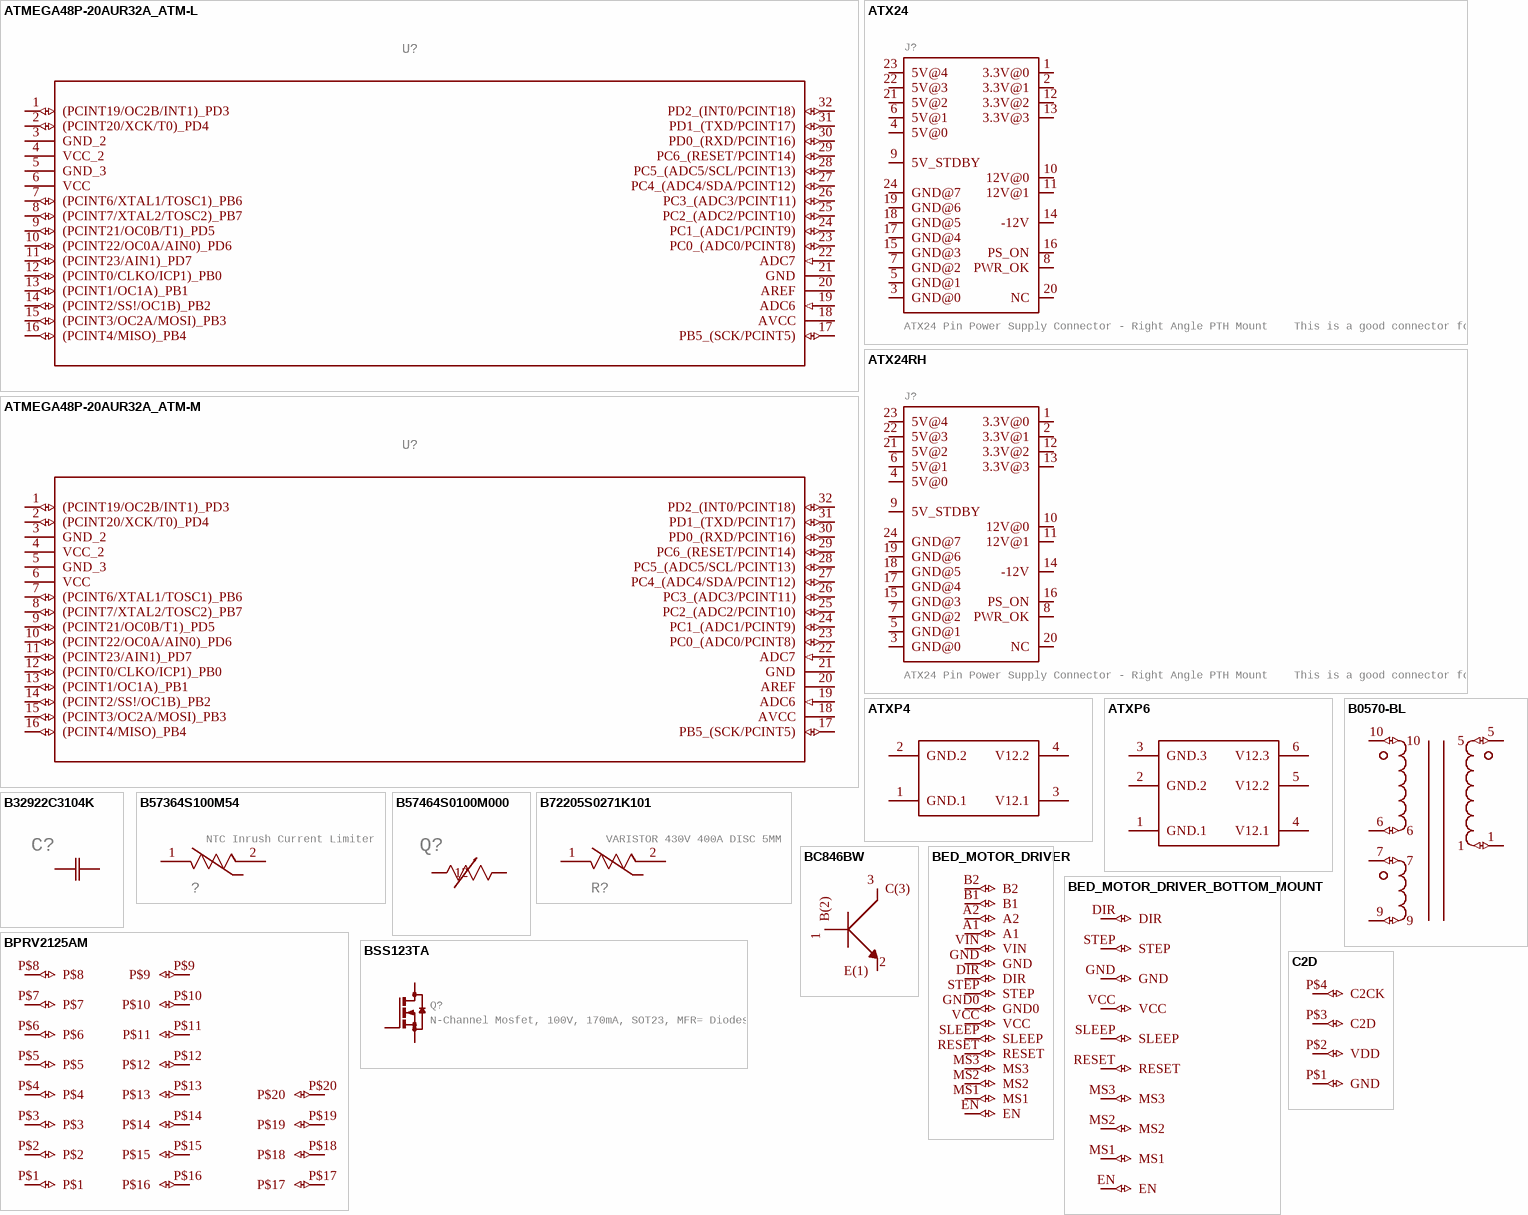
[diagram p3: symbols ATMEGA48P-20AUR32A_ATM-L to C2D]

## ATMEGA48P-20AUR32A_ATM-L
designator U?
GateName_1: A; SymbolName_1: ATMEGA48P-20AU; DeviceName: 32A_ATM-L; DeviceSetName: ATMEGA48P-20AUR; BUILT_BY: EMA_UL_Team; SOURCELIBRARY: Atmel_2014-06-19; VENDOR: Atmel; LibraryName: 3D_MIG_Controller; Package: 32A_ATM-L; MANUFACTURER_PART_NUMBER: ATMEGA48P-20AUR
footprint 32A_ATM-L
pins: 1 (PCINT19/OC2B/INT1)_PD3 (io), 2 (PCINT20/XCK/T0)_PD4 (io), 3 GND_2 (power), 4 VCC_2 (power), 5 GND_3 (power), 6 VCC (power), 7 (PCINT6/XTAL1/TOSC1)_PB6 (io), 8 (PCINT7/XTAL2/TOSC2)_PB7 (io), 9 (PCINT21/OC0B/T1)_PD5 (io), 10 (PCINT22/OC0A/AIN0)_PD6 (io), 11 (PCINT23/AIN1)_PD7 (io), 12 (PCINT0/CLKO/ICP1)_PB0 (io), 13 (PCINT1/OC1A)_PB1 (io), 14 (PCINT2/SS!/OC1B)_PB2 (io), 15 (PCINT3/OC2A/MOSI)_PB3 (io), 16 (PCINT4/MISO)_PB4 (io), 17 PB5_(SCK/PCINT5) (io), 18 AVCC (power), 19 ADC6 (in), 20 AREF, 21 GND (power), 22 ADC7 (in), 23 PC0_(ADC0/PCINT8) (io), 24 PC1_(ADC1/PCINT9) (io), 25 PC2_(ADC2/PCINT10) (io), 26 PC3_(ADC3/PCINT11) (io), 27 PC4_(ADC4/SDA/PCINT12) (io), 28 PC5_(ADC5/SCL/PCINT13) (io), 29 PC6_(RESET/PCINT14) (io), 30 PD0_(RXD/PCINT16) (io), 31 PD1_(TXD/PCINT17) (io), 32 PD2_(INT0/PCINT18) (io)

## ATMEGA48P-20AUR32A_ATM-M
designator U?
GateName_1: A; SymbolName_1: ATMEGA48P-20AU; DeviceName: 32A_ATM-M; DeviceSetName: ATMEGA48P-20AUR; BUILT_BY: EMA_UL_Team; SOURCELIBRARY: Atmel_2014-06-19; VENDOR: Atmel; LibraryName: 3D_MIG_Controller; Package: 32A_ATM-M; MANUFACTURER_PART_NUMBER: ATMEGA48P-20AUR
footprint 32A_ATM-M
pins: 1 (PCINT19/OC2B/INT1)_PD3 (io), 2 (PCINT20/XCK/T0)_PD4 (io), 3 GND_2 (power), 4 VCC_2 (power), 5 GND_3 (power), 6 VCC (power), 7 (PCINT6/XTAL1/TOSC1)_PB6 (io), 8 (PCINT7/XTAL2/TOSC2)_PB7 (io), 9 (PCINT21/OC0B/T1)_PD5 (io), 10 (PCINT22/OC0A/AIN0)_PD6 (io), 11 (PCINT23/AIN1)_PD7 (io), 12 (PCINT0/CLKO/ICP1)_PB0 (io), 13 (PCINT1/OC1A)_PB1 (io), 14 (PCINT2/SS!/OC1B)_PB2 (io), 15 (PCINT3/OC2A/MOSI)_PB3 (io), 16 (PCINT4/MISO)_PB4 (io), 17 PB5_(SCK/PCINT5) (io), 18 AVCC (power), 19 ADC6 (in), 20 AREF, 21 GND (power), 22 ADC7 (in), 23 PC0_(ADC0/PCINT8) (io), 24 PC1_(ADC1/PCINT9) (io), 25 PC2_(ADC2/PCINT10) (io), 26 PC3_(ADC3/PCINT11) (io), 27 PC4_(ADC4/SDA/PCINT12) (io), 28 PC5_(ADC5/SCL/PCINT13) (io), 29 PC6_(RESET/PCINT14) (io), 30 PD0_(RXD/PCINT16) (io), 31 PD1_(TXD/PCINT17) (io), 32 PD2_(INT0/PCINT18) (io)

## ATX24
designator J?, comment ATX24 Pin Power Supply Connector - Right Angle PTH Mount    This is a good connector for connecting a computer power supply to a PCB. It's massive, but provides many amps of power at 5V and 12V.   SparkFun Products:  SparkFun Benchtop Power Board Kit  SparkFun Power Driver Shield Kit
GateName_1: G$1; SymbolName_1: ATX24-1; LibraryName: 3D_MIG_Controller; DeviceSetName: ATX24; Package: ATX24_STRAIGHT
footprint ATX24_STRAIGHT
pins: 1 3.3V@0 (io), 2 3.3V@1 (io), 3 GND@0 (io), 4 5V@0 (io), 5 GND@1 (io), 6 5V@1 (io), 7 GND@2 (io), 8 PWR_OK (io), 9 5V_STDBY (io), 10 12V@0 (io), 11 12V@1 (io), 12 3.3V@2 (io), 13 3.3V@3 (io), 14 -12V (io), 15 GND@3 (io), 16 PS_ON (io), 17 GND@4 (io), 18 GND@5 (io), 19 GND@6 (io), 20 NC (io), 21 5V@2 (io), 22 5V@3 (io), 23 5V@4 (io), 24 GND@7 (io)

## ATX24RH
designator J?, comment ATX24 Pin Power Supply Connector - Right Angle PTH Mount    This is a good connector for connecting a computer power supply to a PCB. It's massive, but provides many amps of power at 5V and 12V.   SparkFun Products:  SparkFun Benchtop Power Board Kit  SparkFun Power Driver Shield Kit
GateName_1: G$1; SymbolName_1: ATX24-1; DeviceName: RH; PROD_ID: CONN-09674; SF_ID: PRT-09498; LibraryName: 3D_MIG_Controller; DeviceSetName: ATX24; Package: ATX24_RIGHT_ANGLE
footprint ATX24_RIGHT_ANGLE
pins: 1 3.3V@0 (io), 2 3.3V@1 (io), 3 GND@0 (io), 4 5V@0 (io), 5 GND@1 (io), 6 5V@1 (io), 7 GND@2 (io), 8 PWR_OK (io), 9 5V_STDBY (io), 10 12V@0 (io), 11 12V@1 (io), 12 3.3V@2 (io), 13 3.3V@3 (io), 14 -12V (io), 15 GND@3 (io), 16 PS_ON (io), 17 GND@4 (io), 18 GND@5 (io), 19 GND@6 (io), 20 NC (io), 21 5V@2 (io), 22 5V@3 (io), 23 5V@4 (io), 24 GND@7 (io)

## ATXP4
designator ?
GateName_1: G$1; SymbolName_1: ATX_P4; DeviceSetName: ATXP4; LibraryName: 3D_MIG_Controller; Package: ATX_P4_STRAIGHT
footprint ATX_P4_STRAIGHT
pins: 1 GND.1 (power), 2 GND.2 (power), 3 V12.1 (power), 4 V12.2 (power)

## ATXP6
designator ?
GateName_1: G$1; SymbolName_1: ATX_P6; DeviceSetName: ATXP6; LibraryName: 3D_MIG_Controller; Package: ATX_P6_STRAIGHT
footprint ATX_P6_STRAIGHT
pins: 1 GND.1 (power), 2 GND.2 (power), 3 GND.3 (power), 4 V12.1 (power), 5 V12.2 (power), 6 V12.3 (power)

## B0570-BL
designator TR?, comment Flyback Transformer, B0570-BL, Coilcraft, 12Watt  (value not drawn)
GateName_1: G$1; SymbolName_1: B0570-BL; LibraryName: 3D_MIG_Controller; DeviceSetName: B0570-BL; Package: B0570-BL
footprint B0570-BL
pins: 1 (io), 5 (io), 6 (io), 7 (io), 9 (io), 10 (io)

## B32922C3104K
designator C?
GateName_1: A; SymbolName_1: CAPH; DeviceSetName: B32922C3104K; BUILT_BY: EMA_UL_Team; SOURCELIBRARY: Epcos_2012-08-08; VENDOR: Epcos; LibraryName: 3D_MIG_Controller; Package: CAP_5.0_X_10.5_X_18.0_EPC; MANUFACTURER_PART_NUMBER: B32922C3104K
footprint CAP_5.0_X_10.5_X_18.0_EPC
pins: 1, 2

## B57364S100M54
designator ?, comment NTC Inrush Current Limiter
GateName_1: G$1; SymbolName_1: VARISTOR; DeviceSetName: B57364S100M54; LibraryName: 3D_MIG_Controller; Package: VARISTOR_D25_P7.5
footprint VARISTOR_D25_P7.5
pins: 1, 2

## B57464S0100M000
designator Q?
GateName_1: A; SymbolName_1: TRES; DeviceSetName: B57464S0100M000; BUILT_BY: EMA_Cory; SOURCELIBRARY: Add_to_database_2020-12-11; VENDOR: Epcos; LibraryName: 3D_MIG_Controller; Package: TRES_B57464S0XXXM000_EPC; COPYRIGHT: Copyright (C) 2018 Accelerated Designs. All rights reserved; DATASHEET: https://product.tdk.com/info/en/documents/data_sheet/50/db/icl_16/S464.pdf; MANUFACTURER_PART_NUMBER: B57464S0100M000
footprint TRES_B57464S0XXXM000_EPC
pins: 1 11, 2 12

## B72205S0271K101
designator R?, comment VARISTOR 430V 400A DISC 5MM
GateName_1: G$1; DeviceSetName: B72205S0271K101; SymbolName_1: VARISTOR; LibraryName: 3D_MIG_Controller; Package: EPCOS_B72205S0271K101_0
footprint EPCOS_B72205S0271K101_0
pins: 1, 2

## BC846BW
designator U?, comment Bipolar (BJT) Transistor NPN 100MHz Surface Mount SOT-323  (value not drawn)
PARTNO: BC846BW_NPN; GateName_1: A; SymbolName_1: TRANS_NPN; DeviceSetName: BC846BW; LibraryName: 3D_MIG_Controller; Package: SOT323
footprint SOT323
pins: 1 B(2) (in), 2 E(1) (out), 3 C(3) (in)

## BED_MOTOR_DRIVER
designator ?
GateName_1: G$1; SymbolName_1: BED_MOTOR_DRIVER; LibraryName: 3D_MIG_Controller; DeviceSetName: BED_MOTOR_DRIVER; Package: BED_MOTOR_DRIVER
footprint BED_MOTOR_DRIVER
pins: A1 (io), A2 (io), B1 (io), B2 (io), DIR (io), EN (io), GND (io), GND0 (io), MS1 (io), MS2 (io), MS3 (io), RESET (io), SLEEP (io), STEP (io), VCC (io), VIN (io)

## BED_MOTOR_DRIVER_BOTTOM_MOUNT
designator ?
GateName_1: G$1; SymbolName_1: BED_MOTOR_DIGITAL_SIGNALS; DeviceSetName: BED_MOTOR_DRIVER_BOTTOM_MOUNT; LibraryName: 3D_MIG_Controller; Package: BED_MOTOR_DS_BOTTOM
footprint BED_MOTOR_DS_BOTTOM
pins: DIR (io), EN (io), GND (io), MS1 (io), MS2 (io), MS3 (io), RESET (io), SLEEP (io), STEP (io), VCC (io)

## BPRV2125AM
designator ?
GateName_1: G$1; SymbolName_1: BPRV2125AM; LibraryName: 3D_MIG_Controller; DeviceSetName: BPRV2125AM; Package: BPRV2125AM
footprint BPRV2125AM
pins: P$1 (io), P$2 (io), P$3 (io), P$4 (io), P$5 (io), P$6 (io), P$7 (io), P$8 (io), P$9 (io), P$10 (io), P$11 (io), P$12 (io), P$13 (io), P$14 (io), P$15 (io), P$16 (io), P$17 (io), P$18 (io), P$19 (io), P$20 (io)

## BSS123TA
designator Q?, comment N-Channel Mosfet, 100V, 170mA, SOT23, MFR= Diodes
GateName_1: G$1; SymbolName_1: N-MOS; DeviceSetName: BSS123TA; POPULARITY: 21; LibraryName: 3D_MIG_Controller; Package: SOT23
footprint SOT23
pins: 1 G, 2 S, 3 D

## C2D
designator J?
GateName_1: G$1; SymbolName_1: CON_C2D; DeviceSetName: C2D; LibraryName: 3D_MIG_Controller; Package: 1X4_.1_INCH_HEADER
footprint 1X4_.1_INCH_HEADER
pins: P$1 GND (io), P$2 VDD (io), P$3 C2D (io), P$4 C2CK (io)

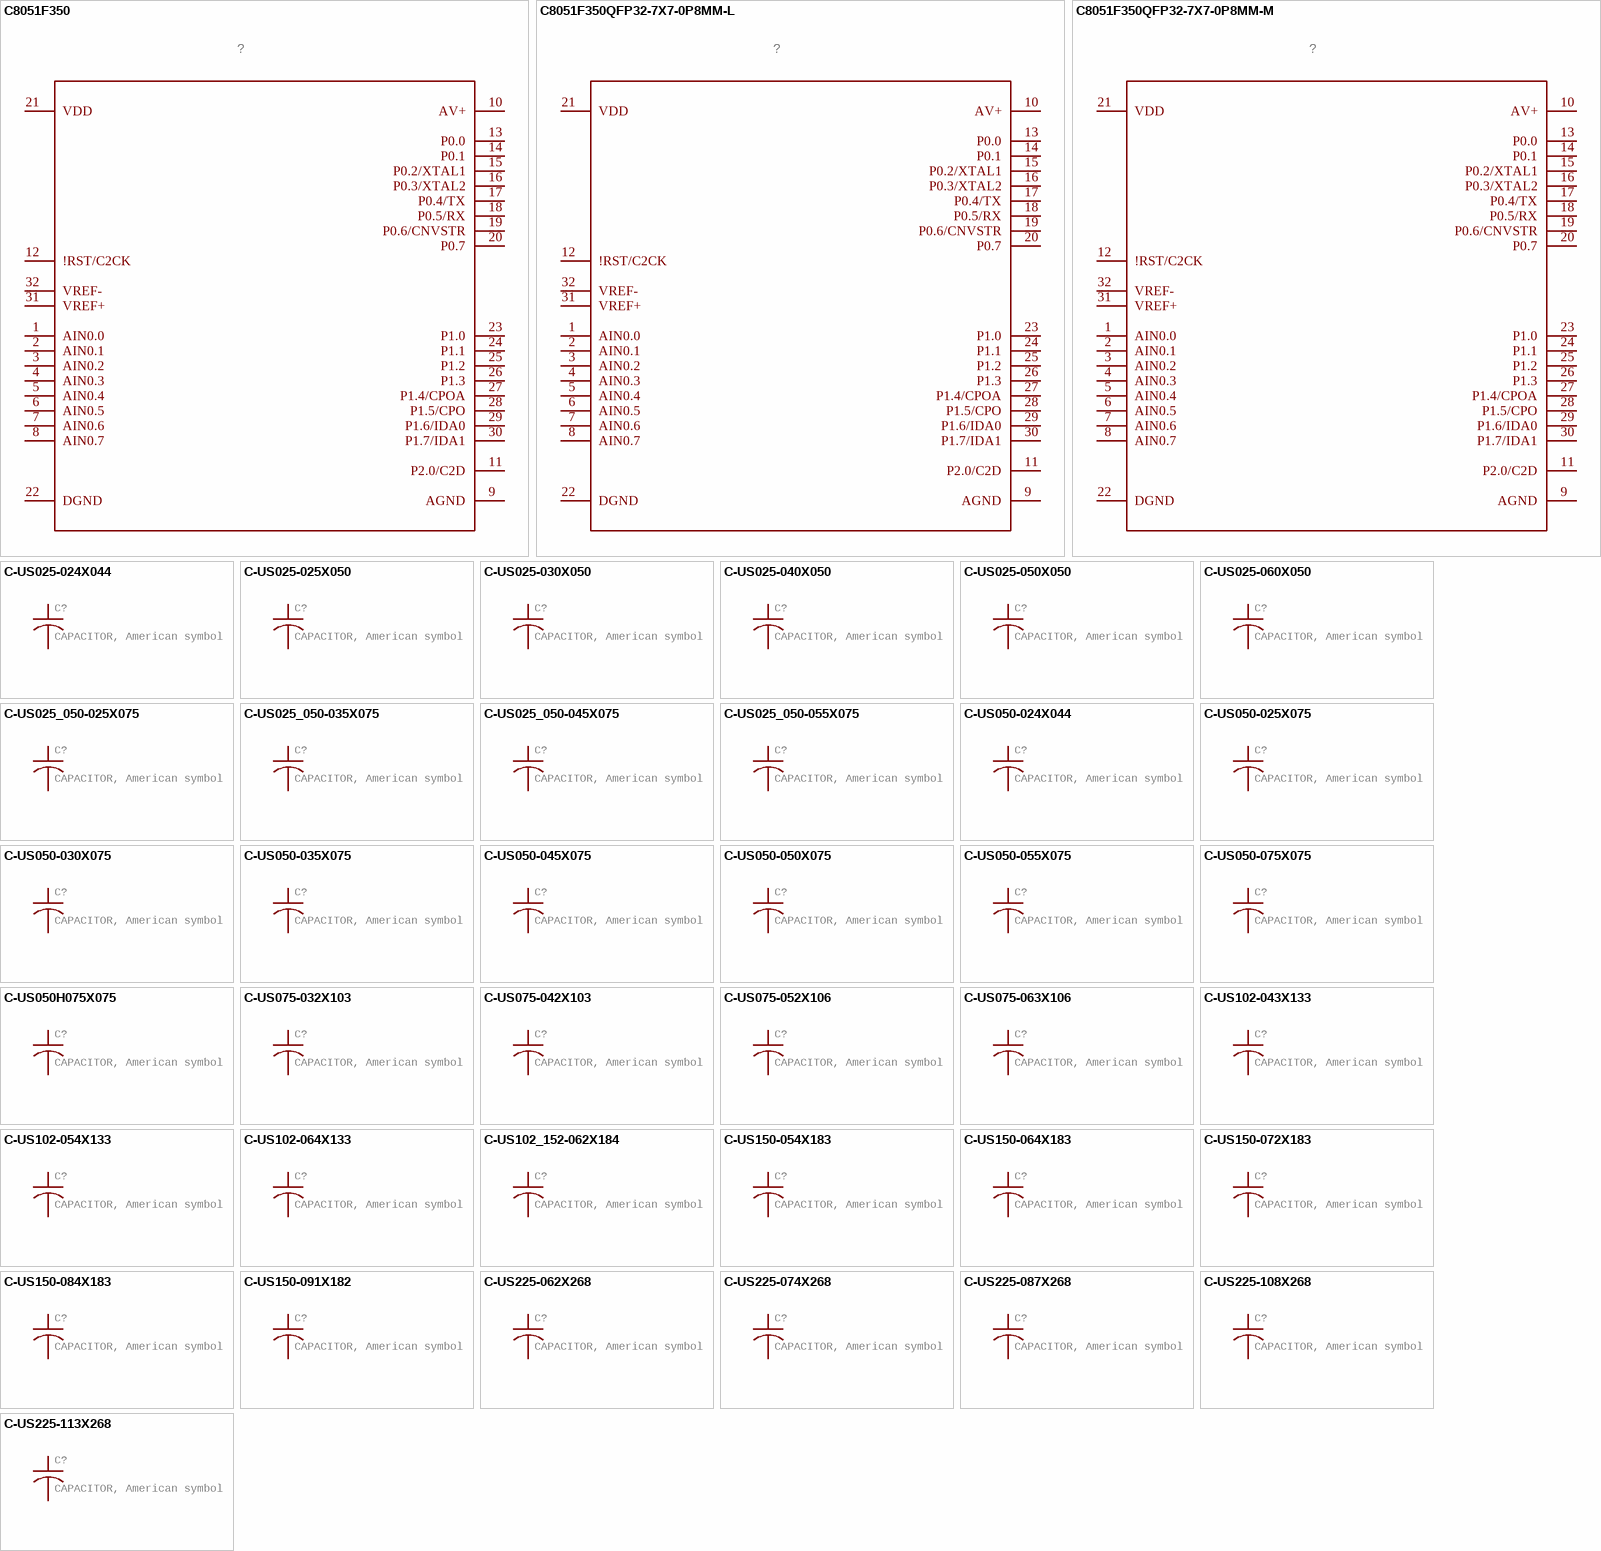
[diagram p4: symbols C8051F350 to C-US225-113X268]

## C8051F350
designator ?
GateName_1: A; SymbolName_1: C8051F350; LibraryName: 3D_MIG_Controller; DeviceSetName: C8051F350; Package: QFP32-7X7-0P8MM
footprint QFP32-7X7-0P8MM
pins: 1 AIN0.0, 2 AIN0.1, 3 AIN0.2, 4 AIN0.3, 5 AIN0.4, 6 AIN0.5, 7 AIN0.6, 8 AIN0.7, 9 AGND, 10 AV+, 11 P2.0/C2D, 12 !RST/C2CK, 13 P0.0, 14 P0.1, 15 P0.2/XTAL1, 16 P0.3/XTAL2, 17 P0.4/TX, 18 P0.5/RX, 19 P0.6/CNVSTR, 20 P0.7, 21 VDD, 22 DGND, 23 P1.0, 24 P1.1, 25 P1.2, 26 P1.3, 27 P1.4/CPOA, 28 P1.5/CPO, 29 P1.6/IDA0, 30 P1.7/IDA1, 31 VREF+, 32 VREF-

## C8051F350QFP32-7X7-0P8MM-L
designator ?
GateName_1: A; SymbolName_1: C8051F350; DeviceName: QFP32-7X7-0P8MM-L; LibraryName: 3D_MIG_Controller; DeviceSetName: C8051F350; Package: QFP32-7X7-0P8MM-L
footprint QFP32-7X7-0P8MM-L
pins: 1 AIN0.0, 2 AIN0.1, 3 AIN0.2, 4 AIN0.3, 5 AIN0.4, 6 AIN0.5, 7 AIN0.6, 8 AIN0.7, 9 AGND, 10 AV+, 11 P2.0/C2D, 12 !RST/C2CK, 13 P0.0, 14 P0.1, 15 P0.2/XTAL1, 16 P0.3/XTAL2, 17 P0.4/TX, 18 P0.5/RX, 19 P0.6/CNVSTR, 20 P0.7, 21 VDD, 22 DGND, 23 P1.0, 24 P1.1, 25 P1.2, 26 P1.3, 27 P1.4/CPOA, 28 P1.5/CPO, 29 P1.6/IDA0, 30 P1.7/IDA1, 31 VREF+, 32 VREF-

## C8051F350QFP32-7X7-0P8MM-M
designator ?
GateName_1: A; SymbolName_1: C8051F350; DeviceName: QFP32-7X7-0P8MM-M; LibraryName: 3D_MIG_Controller; DeviceSetName: C8051F350; Package: QFP32-7X7-0P8MM-M
footprint QFP32-7X7-0P8MM-M
pins: 1 AIN0.0, 2 AIN0.1, 3 AIN0.2, 4 AIN0.3, 5 AIN0.4, 6 AIN0.5, 7 AIN0.6, 8 AIN0.7, 9 AGND, 10 AV+, 11 P2.0/C2D, 12 !RST/C2CK, 13 P0.0, 14 P0.1, 15 P0.2/XTAL1, 16 P0.3/XTAL2, 17 P0.4/TX, 18 P0.5/RX, 19 P0.6/CNVSTR, 20 P0.7, 21 VDD, 22 DGND, 23 P1.0, 24 P1.1, 25 P1.2, 26 P1.3, 27 P1.4/CPOA, 28 P1.5/CPO, 29 P1.6/IDA0, 30 P1.7/IDA1, 31 VREF+, 32 VREF-

## C-US025-024X044
designator C?, comment CAPACITOR, American symbol
GateName_1: G$1; SymbolName_1: C-US-1; DeviceName: 025-024X044; DeviceSetName: C-US; LibraryName: 3D_MIG_Controller; Package: C025-024X044
footprint C025-024X044
pins: 1, 2

## C-US025-025X050
designator C?, comment CAPACITOR, American symbol
GateName_1: G$1; SymbolName_1: C-US-1; DeviceName: 025-025X050; DeviceSetName: C-US; LibraryName: 3D_MIG_Controller; Package: C025-025X050
footprint C025-025X050
pins: 1, 2

## C-US025-030X050
designator C?, comment CAPACITOR, American symbol
GateName_1: G$1; SymbolName_1: C-US-1; DeviceName: 025-030X050; DeviceSetName: C-US; LibraryName: 3D_MIG_Controller; Package: C025-030X050
footprint C025-030X050
pins: 1, 2

## C-US025-040X050
designator C?, comment CAPACITOR, American symbol
GateName_1: G$1; SymbolName_1: C-US-1; DeviceName: 025-040X050; DeviceSetName: C-US; LibraryName: 3D_MIG_Controller; Package: C025-040X050
footprint C025-040X050
pins: 1, 2

## C-US025-050X050
designator C?, comment CAPACITOR, American symbol
GateName_1: G$1; SymbolName_1: C-US-1; DeviceName: 025-050X050; DeviceSetName: C-US; LibraryName: 3D_MIG_Controller; Package: C025-050X050
footprint C025-050X050
pins: 1, 2

## C-US025-060X050
designator C?, comment CAPACITOR, American symbol
GateName_1: G$1; SymbolName_1: C-US-1; DeviceName: 025-060X050; DeviceSetName: C-US; LibraryName: 3D_MIG_Controller; Package: C025-060X050
footprint C025-060X050
pins: 1, 2

## C-US025_050-025X075
designator C?, comment CAPACITOR, American symbol
GateName_1: G$1; SymbolName_1: C-US-1; DeviceName: 025_050-025X075; DeviceSetName: C-US; LibraryName: 3D_MIG_Controller; Package: C025_050-025X075
footprint C025_050-025X075
pins: 1, 2

## C-US025_050-035X075
designator C?, comment CAPACITOR, American symbol
GateName_1: G$1; SymbolName_1: C-US-1; DeviceName: 025_050-035X075; DeviceSetName: C-US; LibraryName: 3D_MIG_Controller; Package: C025_050-035X075
footprint C025_050-035X075
pins: 1, 2

## C-US025_050-045X075
designator C?, comment CAPACITOR, American symbol
GateName_1: G$1; SymbolName_1: C-US-1; DeviceName: 025_050-045X075; DeviceSetName: C-US; LibraryName: 3D_MIG_Controller; Package: C025_050-045X075
footprint C025_050-045X075
pins: 1, 2

## C-US025_050-055X075
designator C?, comment CAPACITOR, American symbol
GateName_1: G$1; SymbolName_1: C-US-1; DeviceName: 025_050-055X075; DeviceSetName: C-US; LibraryName: 3D_MIG_Controller; Package: C025_050-055X075
footprint C025_050-055X075
pins: 1, 2

## C-US050-024X044
designator C?, comment CAPACITOR, American symbol
GateName_1: G$1; SymbolName_1: C-US-1; DeviceName: 050-024X044; DeviceSetName: C-US; LibraryName: 3D_MIG_Controller; Package: C050-024X044
footprint C050-024X044
pins: 1, 2

## C-US050-025X075
designator C?, comment CAPACITOR, American symbol
GateName_1: G$1; SymbolName_1: C-US-1; DeviceName: 050-025X075; DeviceSetName: C-US; LibraryName: 3D_MIG_Controller; Package: C050-025X075
footprint C050-025X075
pins: 1, 2

## C-US050-030X075
designator C?, comment CAPACITOR, American symbol
GateName_1: G$1; SymbolName_1: C-US-1; DeviceName: 050-030X075; DeviceSetName: C-US; LibraryName: 3D_MIG_Controller; Package: C050-030X075
footprint C050-030X075
pins: 1, 2

## C-US050-035X075
designator C?, comment CAPACITOR, American symbol
GateName_1: G$1; SymbolName_1: C-US-1; DeviceName: 050-035X075; DeviceSetName: C-US; LibraryName: 3D_MIG_Controller; Package: C050-035X075
footprint C050-035X075
pins: 1, 2

## C-US050-045X075
designator C?, comment CAPACITOR, American symbol
GateName_1: G$1; SymbolName_1: C-US-1; DeviceName: 050-045X075; DeviceSetName: C-US; LibraryName: 3D_MIG_Controller; Package: C050-045X075
footprint C050-045X075
pins: 1, 2

## C-US050-050X075
designator C?, comment CAPACITOR, American symbol
GateName_1: G$1; SymbolName_1: C-US-1; DeviceName: 050-050X075; DeviceSetName: C-US; LibraryName: 3D_MIG_Controller; Package: C050-050X075
footprint C050-050X075
pins: 1, 2

## C-US050-055X075
designator C?, comment CAPACITOR, American symbol
GateName_1: G$1; SymbolName_1: C-US-1; DeviceName: 050-055X075; DeviceSetName: C-US; LibraryName: 3D_MIG_Controller; Package: C050-055X075
footprint C050-055X075
pins: 1, 2

## C-US050-075X075
designator C?, comment CAPACITOR, American symbol
GateName_1: G$1; SymbolName_1: C-US-1; DeviceName: 050-075X075; DeviceSetName: C-US; LibraryName: 3D_MIG_Controller; Package: C050-075X075
footprint C050-075X075
pins: 1, 2

## C-US050H075X075
designator C?, comment CAPACITOR, American symbol
GateName_1: G$1; SymbolName_1: C-US-1; DeviceName: 050H075X075; DeviceSetName: C-US; LibraryName: 3D_MIG_Controller; Package: C050H075X075
footprint C050H075X075
pins: 1, 2

## C-US075-032X103
designator C?, comment CAPACITOR, American symbol
GateName_1: G$1; SymbolName_1: C-US-1; DeviceName: 075-032X103; DeviceSetName: C-US; LibraryName: 3D_MIG_Controller; Package: C075-032X103
footprint C075-032X103
pins: 1, 2

## C-US075-042X103
designator C?, comment CAPACITOR, American symbol
GateName_1: G$1; SymbolName_1: C-US-1; DeviceName: 075-042X103; DeviceSetName: C-US; LibraryName: 3D_MIG_Controller; Package: C075-042X103
footprint C075-042X103
pins: 1, 2

## C-US075-052X106
designator C?, comment CAPACITOR, American symbol
GateName_1: G$1; SymbolName_1: C-US-1; DeviceName: 075-052X106; DeviceSetName: C-US; LibraryName: 3D_MIG_Controller; Package: C075-052X106
footprint C075-052X106
pins: 1, 2

## C-US075-063X106
designator C?, comment CAPACITOR, American symbol
GateName_1: G$1; SymbolName_1: C-US-1; DeviceName: 075-063X106; DeviceSetName: C-US; LibraryName: 3D_MIG_Controller; Package: C075-063X106
footprint C075-063X106
pins: 1, 2

## C-US102-043X133
designator C?, comment CAPACITOR, American symbol
GateName_1: G$1; SymbolName_1: C-US-1; DeviceName: 102-043X133; DeviceSetName: C-US; LibraryName: 3D_MIG_Controller; Package: C102-043X133
footprint C102-043X133
pins: 1, 2

## C-US102-054X133
designator C?, comment CAPACITOR, American symbol
GateName_1: G$1; SymbolName_1: C-US-1; DeviceName: 102-054X133; DeviceSetName: C-US; LibraryName: 3D_MIG_Controller; Package: C102-054X133
footprint C102-054X133
pins: 1, 2

## C-US102-064X133
designator C?, comment CAPACITOR, American symbol
GateName_1: G$1; SymbolName_1: C-US-1; DeviceName: 102-064X133; DeviceSetName: C-US; LibraryName: 3D_MIG_Controller; Package: C102-064X133
footprint C102-064X133
pins: 1, 2

## C-US102_152-062X184
designator C?, comment CAPACITOR, American symbol
GateName_1: G$1; SymbolName_1: C-US-1; DeviceName: 102_152-062X184; DeviceSetName: C-US; LibraryName: 3D_MIG_Controller; Package: C102_152-062X184
footprint C102_152-062X184
pins: 1, 2

## C-US150-054X183
designator C?, comment CAPACITOR, American symbol
GateName_1: G$1; SymbolName_1: C-US-1; DeviceName: 150-054X183; DeviceSetName: C-US; LibraryName: 3D_MIG_Controller; Package: C150-054X183
footprint C150-054X183
pins: 1, 2

## C-US150-064X183
designator C?, comment CAPACITOR, American symbol
GateName_1: G$1; SymbolName_1: C-US-1; DeviceName: 150-064X183; DeviceSetName: C-US; LibraryName: 3D_MIG_Controller; Package: C150-064X183
footprint C150-064X183
pins: 1, 2

## C-US150-072X183
designator C?, comment CAPACITOR, American symbol
GateName_1: G$1; SymbolName_1: C-US-1; DeviceName: 150-072X183; DeviceSetName: C-US; LibraryName: 3D_MIG_Controller; Package: C150-072X183
footprint C150-072X183
pins: 1, 2

## C-US150-084X183
designator C?, comment CAPACITOR, American symbol
GateName_1: G$1; SymbolName_1: C-US-1; DeviceName: 150-084X183; DeviceSetName: C-US; LibraryName: 3D_MIG_Controller; Package: C150-084X183
footprint C150-084X183
pins: 1, 2

## C-US150-091X182
designator C?, comment CAPACITOR, American symbol
GateName_1: G$1; SymbolName_1: C-US-1; DeviceName: 150-091X182; DeviceSetName: C-US; LibraryName: 3D_MIG_Controller; Package: C150-091X182
footprint C150-091X182
pins: 1, 2

## C-US225-062X268
designator C?, comment CAPACITOR, American symbol
GateName_1: G$1; SymbolName_1: C-US-1; DeviceName: 225-062X268; DeviceSetName: C-US; LibraryName: 3D_MIG_Controller; Package: C225-062X268
footprint C225-062X268
pins: 1, 2

## C-US225-074X268
designator C?, comment CAPACITOR, American symbol
GateName_1: G$1; SymbolName_1: C-US-1; DeviceName: 225-074X268; DeviceSetName: C-US; LibraryName: 3D_MIG_Controller; Package: C225-074X268
footprint C225-074X268
pins: 1, 2

## C-US225-087X268
designator C?, comment CAPACITOR, American symbol
GateName_1: G$1; SymbolName_1: C-US-1; DeviceName: 225-087X268; DeviceSetName: C-US; LibraryName: 3D_MIG_Controller; Package: C225-087X268
footprint C225-087X268
pins: 1, 2

## C-US225-108X268
designator C?, comment CAPACITOR, American symbol
GateName_1: G$1; SymbolName_1: C-US-1; DeviceName: 225-108X268; DeviceSetName: C-US; LibraryName: 3D_MIG_Controller; Package: C225-108X268
footprint C225-108X268
pins: 1, 2

## C-US225-113X268
designator C?, comment CAPACITOR, American symbol
GateName_1: G$1; SymbolName_1: C-US-1; DeviceName: 225-113X268; DeviceSetName: C-US; LibraryName: 3D_MIG_Controller; Package: C225-113X268
footprint C225-113X268
pins: 1, 2

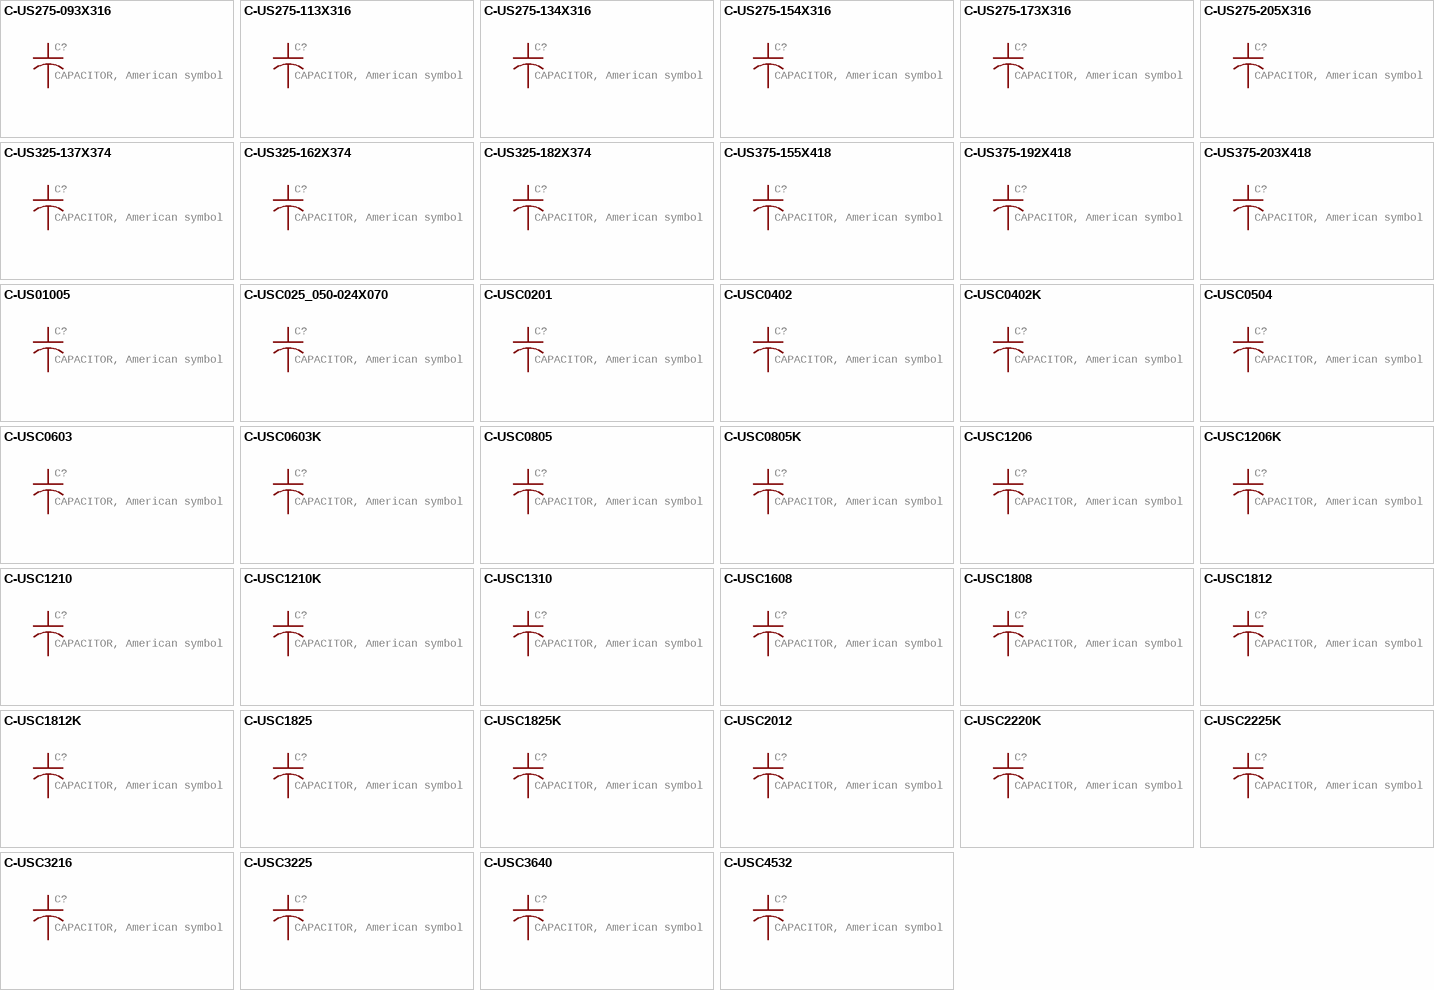
[diagram p5: symbols C-US275-093X316 to C-USC4532]

## C-US275-093X316
designator C?, comment CAPACITOR, American symbol
GateName_1: G$1; SymbolName_1: C-US-1; DeviceName: 275-093X316; DeviceSetName: C-US; LibraryName: 3D_MIG_Controller; Package: C275-093X316
footprint C275-093X316
pins: 1, 2

## C-US275-113X316
designator C?, comment CAPACITOR, American symbol
GateName_1: G$1; SymbolName_1: C-US-1; DeviceName: 275-113X316; DeviceSetName: C-US; LibraryName: 3D_MIG_Controller; Package: C275-113X316
footprint C275-113X316
pins: 1, 2

## C-US275-134X316
designator C?, comment CAPACITOR, American symbol
GateName_1: G$1; SymbolName_1: C-US-1; DeviceName: 275-134X316; DeviceSetName: C-US; LibraryName: 3D_MIG_Controller; Package: C275-134X316
footprint C275-134X316
pins: 1, 2

## C-US275-154X316
designator C?, comment CAPACITOR, American symbol
GateName_1: G$1; SymbolName_1: C-US-1; DeviceName: 275-154X316; DeviceSetName: C-US; LibraryName: 3D_MIG_Controller; Package: C275-154X316
footprint C275-154X316
pins: 1, 2

## C-US275-173X316
designator C?, comment CAPACITOR, American symbol
GateName_1: G$1; SymbolName_1: C-US-1; DeviceName: 275-173X316; DeviceSetName: C-US; LibraryName: 3D_MIG_Controller; Package: C275-173X316
footprint C275-173X316
pins: 1, 2

## C-US275-205X316
designator C?, comment CAPACITOR, American symbol
GateName_1: G$1; SymbolName_1: C-US-1; DeviceName: 275-205X316; DeviceSetName: C-US; LibraryName: 3D_MIG_Controller; Package: C275-205X316
footprint C275-205X316
pins: 1, 2

## C-US325-137X374
designator C?, comment CAPACITOR, American symbol
GateName_1: G$1; SymbolName_1: C-US-1; DeviceName: 325-137X374; DeviceSetName: C-US; LibraryName: 3D_MIG_Controller; Package: C325-137X374
footprint C325-137X374
pins: 1, 2

## C-US325-162X374
designator C?, comment CAPACITOR, American symbol
GateName_1: G$1; SymbolName_1: C-US-1; DeviceName: 325-162X374; DeviceSetName: C-US; LibraryName: 3D_MIG_Controller; Package: C325-162X374
footprint C325-162X374
pins: 1, 2

## C-US325-182X374
designator C?, comment CAPACITOR, American symbol
GateName_1: G$1; SymbolName_1: C-US-1; DeviceName: 325-182X374; DeviceSetName: C-US; LibraryName: 3D_MIG_Controller; Package: C325-182X374
footprint C325-182X374
pins: 1, 2

## C-US375-155X418
designator C?, comment CAPACITOR, American symbol
GateName_1: G$1; SymbolName_1: C-US-1; DeviceName: 375-155X418; DeviceSetName: C-US; LibraryName: 3D_MIG_Controller; Package: C375-155X418
footprint C375-155X418
pins: 1, 2

## C-US375-192X418
designator C?, comment CAPACITOR, American symbol
GateName_1: G$1; SymbolName_1: C-US-1; DeviceName: 375-192X418; DeviceSetName: C-US; LibraryName: 3D_MIG_Controller; Package: C375-192X418
footprint C375-192X418
pins: 1, 2

## C-US375-203X418
designator C?, comment CAPACITOR, American symbol
GateName_1: G$1; SymbolName_1: C-US-1; DeviceName: 375-203X418; DeviceSetName: C-US; LibraryName: 3D_MIG_Controller; Package: C375-203X418
footprint C375-203X418
pins: 1, 2

## C-US01005
designator C?, comment CAPACITOR, American symbol
GateName_1: G$1; SymbolName_1: C-US-1; DeviceName: 01005; DeviceSetName: C-US; LibraryName: 3D_MIG_Controller; Package: C01005
footprint C01005
pins: 1, 2

## C-USC025_050-024X070
designator C?, comment CAPACITOR, American symbol
GateName_1: G$1; SymbolName_1: C-US-1; DeviceName: C025_050-024X070; DeviceSetName: C-US; LibraryName: 3D_MIG_Controller; Package: C025_050-024X070
footprint C025_050-024X070
pins: 1, 2

## C-USC0201
designator C?, comment CAPACITOR, American symbol
GateName_1: G$1; SymbolName_1: C-US-1; DeviceName: C0201; DeviceSetName: C-US; LibraryName: 3D_MIG_Controller; Package: C0201
footprint C0201
pins: 1, 2

## C-USC0402
designator C?, comment CAPACITOR, American symbol
GateName_1: G$1; SymbolName_1: C-US-1; DeviceName: C0402; DeviceSetName: C-US; LibraryName: 3D_MIG_Controller; Package: C0402
footprint C0402
pins: 1, 2

## C-USC0402K
designator C?, comment CAPACITOR, American symbol
GateName_1: G$1; SymbolName_1: C-US-1; DeviceName: C0402K; DeviceSetName: C-US; LibraryName: 3D_MIG_Controller; Package: C0402K
footprint C0402K
pins: 1, 2